# Altium schematic symbol library fgr.SchLib: 756 symbols (part 1 of 4)
Pins are listed as number, name and electrical type; pins without a type are passive.

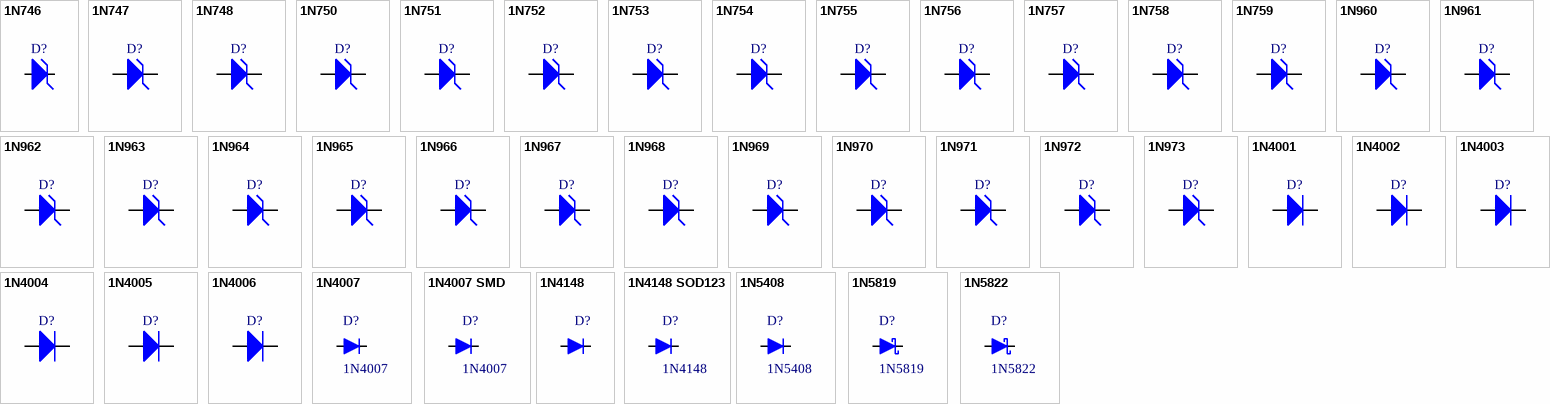
[diagram p0: symbols 1N746 to 1N5822]

## 1N746
designator D?
3.3V 500mW Zener Diode
simulation model 1N746 (MDL)
footprint DIODE200
simulation model 1N746V2 (SUBCKT)
pins: 1 A, 2 K

## 1N747
designator D?
3.6V 500mW Zener Diode
simulation model 1N747 (MDL)
footprint DIODE200
simulation model 1N747V2 (SUBCKT)
pins: 1 A, 2 K

## 1N748
designator D?
3.9V 500mW Zener Diode
simulation model 1N748 (MDL)
footprint DIODE200
simulation model 1N748V2 (SUBCKT)
pins: 1 A, 2 K

## 1N750
designator D?
4.7V 500mW Zener Diode
simulation model 1N750 (MDL)
footprint DIODE200
simulation model 1N750V2 (SUBCKT)
pins: 1 A, 2 K

## 1N751
designator D?
5.1V 500mW Zener Diode
simulation model 1N751 (MDL)
footprint DIODE200
simulation model 1N751V2 (SUBCKT)
pins: 1 A, 2 K

## 1N752
designator D?
5.6V 500mW Zener Diode
simulation model 1N752 (MDL)
footprint DIODE200
simulation model 1N752V2 (SUBCKT)
pins: 1 A, 2 K

## 1N753
designator D?
6.2V 500mW Zener Diode
simulation model 1N753 (MDL)
footprint DIODE200
simulation model 1N753V2 (SUBCKT)
pins: 1 A, 2 K

## 1N754
designator D?
6.8V 500mW Zener Diode
simulation model 1N754 (MDL)
footprint DIODE200
simulation model 1N754V2 (SUBCKT)
pins: 1 A, 2 K

## 1N755
designator D?
7.5V 500mW Zener Diode
simulation model 1N755 (MDL)
footprint DIODE200
simulation model 1N755V2 (SUBCKT)
pins: 1 A, 2 K

## 1N756
designator D?
8.2V 500mW Zener Diode
simulation model 1N756 (MDL)
footprint DIODE200
simulation model 1N756V2 (SUBCKT)
pins: 1 A, 2 K

## 1N757
designator D?
9.1V 500mW Zener Diode
simulation model 1N757 (MDL)
footprint DIODE200
simulation model 1N757V2 (SUBCKT)
pins: 1 A, 2 K

## 1N758
designator D?
10V 500mW Zener Diode
simulation model 1N758 (MDL)
footprint DIODE200
simulation model 1N758V2 (SUBCKT)
pins: 1 A, 2 K

## 1N759
designator D?
12V 500mW Zener Diode; Power: 500mW; Voltage: 12V
simulation model 1N759 (MDL)
footprint DIODE200
simulation model 1N759V2 (SUBCKT)
pins: 1 A, 2 K

## 1N960
designator D?
9.1V 500mW Zener Diode
simulation model 1N960 (SUBCKT)
footprint diode200
pins: 1 A, 2 K

## 1N961
designator D?
10V 500mW Zener Diode
simulation model 1N961 (SUBCKT)
footprint diode200
pins: 1 A, 2 K

## 1N962
designator D?
11V 500mW Zener Diode
simulation model 1N962 (SUBCKT)
footprint diode200
pins: 1 A, 2 K

## 1N963
designator D?
12V 500mW Zener Diode
simulation model 1N963 (SUBCKT)
footprint diode200
pins: 1 A, 2 K

## 1N964
designator D?
13V 500mW Zener Diode
simulation model 1N964 (SUBCKT)
footprint diode200
pins: 1 A, 2 K

## 1N965
designator D?
15V 500mW Zener Diode
simulation model 1N965 (SUBCKT)
footprint diode200
pins: 1 A, 2 K

## 1N966
designator D?
16V 500mW Zener Diode
simulation model 1N966 (SUBCKT)
footprint diode200
pins: 1 A, 2 K

## 1N967
designator D?
18V 500mW Zener Diode
simulation model 1N967 (SUBCKT)
footprint diode200
pins: 1 A, 2 K

## 1N968
designator D?
20V 500mW Zener Diode
simulation model 1N968 (SUBCKT)
footprint diode200
pins: 1 A, 2 K

## 1N969
designator D?
22V 500mW Zener Diode
simulation model 1N969 (SUBCKT)
footprint diode200
pins: 1 A, 2 K

## 1N970
designator D?
24V 500mW Zener Diode
simulation model 1N970 (SUBCKT)
footprint diode200
pins: 1 A, 2 K

## 1N971
designator D?
27V 500mW Zener Diode
simulation model 1N971 (SUBCKT)
footprint diode200
pins: 1 A, 2 K

## 1N972
designator D?
30V 500mW Zener Diode
simulation model 1N972 (SUBCKT)
footprint diode200
pins: 1 A, 2 K

## 1N973
designator D?
33V 500mW Zener Diode
simulation model 1N973 (SUBCKT)
footprint diode200
pins: 1 A, 2 K

## 1N4001
designator D?
1A 50V General Purpose Rectifier; Price: ?
footprint DIODE300 (DIODO THROUGH-HOLE)
footprint dsmd2mm (DIODO SMD)
footprint diode300 (DIODO THROUGH-HOLE)
footprint diode300_90
footprint DIODE600
simulation model 1N4001 (MDL)
footprint diode400
simulation model DIODE (SUBCKT)
footprint D64
pins: 1, 2

## 1N4002
designator D?
1A 100V General Purpose Rectifier; Price: ?
footprint DIODE300 (DIODO THROUGH-HOLE)
footprint dsmd2mm (DIODO SMD)
footprint diode300 (DIODO THROUGH-HOLE)
footprint diode300_90
footprint DIODE600
simulation model 1N4002 (MDL)
footprint diode400
simulation model DIODE (SUBCKT)
footprint D64
pins: 1, 2

## 1N4003
designator D?
1A 200V General Purpose Rectifier; Price: ?
footprint DIODE300 (DIODO THROUGH-HOLE)
footprint dsmd2mm (DIODO SMD)
footprint diode300 (DIODO THROUGH-HOLE)
footprint diode300_90
footprint DIODE600
simulation model 1N4003 (MDL)
footprint diode400
simulation model DIODE (SUBCKT)
footprint D64
pins: 1, 2

## 1N4004
designator D?
1A 400V General Purpose Rectifier; Price: ?
footprint DIODE300 (DIODO THROUGH-HOLE)
footprint dsmd2mm (DIODO SMD)
footprint diode300 (DIODO THROUGH-HOLE)
footprint diode300_90
footprint DIODE600
simulation model 1N4004 (MDL)
footprint diode400
simulation model DIODE (SUBCKT)
footprint D64
pins: 1, 2

## 1N4005
designator D?
1A 600V General Purpose Rectifier; Price: ?
footprint DIODE300 (DIODO THROUGH-HOLE)
footprint dsmd2mm (DIODO SMD)
footprint diode300 (DIODO THROUGH-HOLE)
footprint diode300_90
footprint DIODE600
simulation model 1N4005 (MDL)
footprint diode400
simulation model DIODE (SUBCKT)
footprint D64
pins: 1, 2

## 1N4006
designator D?
1A 800V General Purpose Rectifier; Price: ?
footprint DIODE300 (DIODO THROUGH-HOLE)
footprint dsmd2mm (DIODO SMD)
footprint diode300 (DIODO THROUGH-HOLE)
footprint diode300_90
footprint DIODE600
simulation model 1N4006 (MDL)
footprint diode400
simulation model DIODE (SUBCKT)
footprint D64
pins: 1, 2

## 1N4007
designator D?
Codigo Elemon: DI1152060; Dolares Elemon: 0.01989
footprint D_DO41
simulation model 1N4007 (MDL)
footprint diode400
simulation model DIODE (SUBCKT)
pins: 1, 2

## 1N4007 SMD
designator D?, comment 1N4007
1N4007 SMD; Dolares Elemon: 0.03482; Codigo Elemon: DI1202222
simulation model 1N4007 (MDL)
simulation model DIODE (SUBCKT)
footprint D_DO214
pins: 1, 2

## 1N4148
designator D?
High Conductance Fast Diode; Price: ?
footprint DIODE300 (DIODO THROUGH-HOLE)
footprint DSMD1MM (DIODO SMD)
simulation model 1N4148 (DIODE)
pins: 1, 2

## 1N4148 SOD123
designator D?, comment 1N4148
1N4148 SOD123; Dolares Elemon: 0.05230; Codigo Elemon: DI1202050
footprint DIODE300 (DIODO THROUGH-HOLE)
footprint SOD123 (DIODO SMD)
simulation model 1N4148 (DIODE)
pins: 1, 2

## 1N5408
designator D?
footprint D_DO27
simulation model 1N4007 (MDL)
footprint diode400
simulation model DIODE (SUBCKT)
pins: 1, 2

## 1N5819
designator D?
Schottky Diode 1A 40V; Revision: July-2002: Re-released for DXP Platform.
footprint d_do41
simulation model 1N5819 (MDL)
pins: 1 A, 2 K

## 1N5822
designator D?
Schottky Diode 3A 40V; Revision: July-2002: Re-released for DXP Platform.
footprint DIODE300 (DIODO THROUGH-HOLE)
footprint D_DO27
simulation model 1N5822 (MDL)
pins: 1 A, 2 K

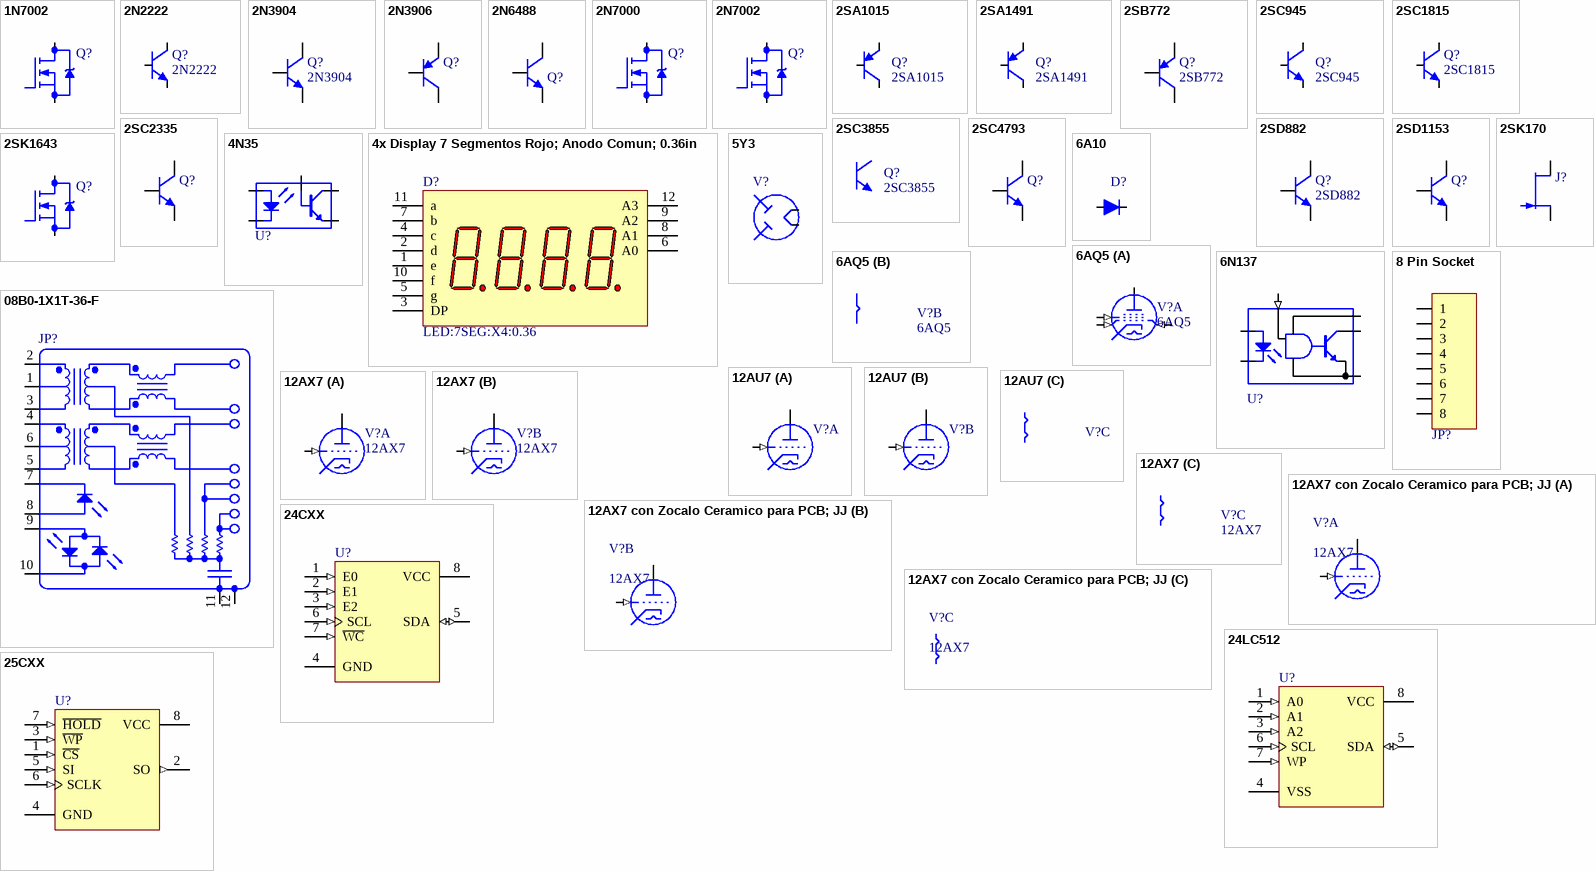
[diagram p1: symbols 1N7002 to 25CXX]

## 1N7002
designator Q?
N-channel enhacement mode MOSFET; Price: ?
footprint SOT23; pin to pad 2>3 3>2
pins: 1 G, 2 D, 3 S

## 2N2222
designator Q?
footprint to18
pins: 1 B, 2 C, 3 E

## 2N3904
designator Q?
NPN Bipolar Transistor; Price: 0.38
footprint TO92 (DISPOSITIVO DE ENCAPSULADO TO-92); pin to pad 1>3 3>1
pins: 1 C, 2 B, 3 E

## 2N3906
designator Q?
200mA 40V PNP Bipolar Transistor; Price: 0.3267
footprint TO92B; pin to pad 1>2 2>1
pins: 1 B, 2 E, 3 C

## 2N6488
designator Q?
NPN Bipolar Transistor 15A 80V
footprint to220 (DISPOSITIVO DE ENCAPSULADO TO-220); pin to pad 1>2 2>3 3>1
footprint TO220_3; pin to pad 1>2 2>3 3>1
pins: 1 C, 2 B, 3 E

## 2N7000
designator Q?
N-Channel MOSFET 60V  0.28A 5 ohm; Price: ?
footprint TO92B; pin to pad 1>2 2>3 3>1
pins: 1 G, 2 D, 3 S

## 2N7002
designator Q?
N-Channel MOSFET 60V  0.1A 7.5 ohm; Price: ?
footprint SOT23; pin to pad 2>3 3>2
pins: 1 G, 2 D, 3 S

## 2SA1015
designator Q?
Price: 0.3267
footprint to92 (DISPOSITIVO DE ENCAPSULADO TO-92); pin to pad 1>2 2>3 3>1
pins: 1 C, 2 B, 3 E

## 2SA1491
designator Q?
Price: 0.3267
footprint TO247; pin to pad 1>2 2>1
pins: 1 C, 2 B, 3 E

## 2SB772
designator Q?
PNP Bipolar Transistor; Price: 0.3267
footprint to126; pin to pad 2>3 3>2
pins: 1 B, 2 E, 3 C

## 2SC945
designator Q?
Price: ?
footprint to92 (DISPOSITIVO DE ENCAPSULADO TO-92); pin to pad 1>2 2>3 3>1
pins: 1 C, 2 B, 3 E

## 2SC1815
designator Q?
NPN Bipolar Transistor; Price: ?
footprint to92 (DISPOSITIVO DE ENCAPSULADO TO-92)
footprint to92b
pins: 1 E, 2 C, 3 B

## 2SC2335
designator Q?
7A 400V NPN Bipolar Transistor; Price: 0.38
footprint TO220 (DISPOSITIVO DE ENCAPSULADO TO-220); pin to pad 1>2 2>1
simulation model 2sc2335 (MDL)
pins: 1 C, 2 B, 3 E

## 2SC3855
designator Q?
footprint TO247; pin to pad 1>2 2>1
pins: 1 C, 2 B, 3 E

## 2SC4793
designator Q?
1A 230V NPN Bipolar Transistor; Price: 0.38
footprint TO220 (DISPOSITIVO DE ENCAPSULADO TO-220); pin to pad 1>2 2>1
simulation model 2SC4793 (MDL)
pins: 1 C, 2 B, 3 E

## 2SD882
designator Q?
NPN Bipolar Transistor; Price: ?
footprint TO126; pin to pad 1>3 3>1
footprint to92b
pins: 1 E, 2 C, 3 B

## 2SD1153
designator Q?
1.5A 50V NPN Bipolar Transistor; Price: 0.38
footprint to92 (DISPOSITIVO DE ENCAPSULADO TO-92); pin to pad 1>3 2>1 3>2
footprint to92c; pin to pad 1>3 2>1 3>2
pins: 1 B, 2 E, 3 C

## 2SK170
designator J?
N-Channel JFET; Revision: July-2002: Re-released for DXP Platform.
footprint TO92 (DISPOSITIVO DE ENCAPSULADO TO-92)
pins: 1 D, 2 G, 3 S

## 2SK1643
designator Q?
Power Field Effect Transistor; Revision: 17-Jul-2002: Re-released for DXP Platform.
footprint TO220 (DISPOSITIVO DE ENCAPSULADO TO-220)
footprint To220_2
pins: 1 G, 2 D, 3 S

## 4N35
designator U?
Optoaislador; Price: ?
footprint DIP6Z (ZOCALO DIP 6)
simulation model OPTOCOUPLER (SUBCKT)
pins: 1 A, 2 K, 4 E, 5 C, 6 B

## 4x Display 7 Segmentos Rojo; Anodo Comun; 0.36in
designator D?, comment LED:7SEG:X4:0.36
footprint LED:7SEG:X4:0.36
pins: 1 e "Cathode", 2 d "Cathode", 3 DP "Cathode", 4 c "Cathode", 5 g "Cathode", 6 A0 "Anode", 7 b "Cathode", 8 A1 "Anode", 9 A2 "Anode", 10 f "Cathode", 11 a "Cathode", 12 A3 "Anode"

## 5Y3
designator V?
5Y3 Tube; Revision: July-2002: Re-released for DXP Platform.
footprint tube_socket_1
pins: 2, 4, 6, 8

## 6A10
designator D?  (value not drawn)
Price: ?
footprint D_R6
simulation model DIODO (MDL)
simulation model DIODE (SUBCKT)
pins: 1, 2

## 6AQ5
designator V?
Revision: July-2002: Re-released for DXP Platform.
footprint TUBE_SOCKET_2
simulation model V12AX7 (subckt)
part A pins: 1 GRID2A (in), 2 CATHODE, 5 PLATE, 6 GRID (in), 7 GRID2B (in)
part B pins: 3 HEATER, 4 HEATER

## 6N137
designator U?
Optoaislador; Price: ?
footprint DIP8Z (ZOCALO DIP 8)
pins: 2 A, 3 K, 5 GND (power), 6 VO (oc), 7 VE (in), 8 VCC (power)

## 8 Pin Socket
designator JP?  (value not drawn)
Price: ?
pins: 1, 2, 3, 4, 5, 6, 7, 8

## 08B0-1X1T-36-F
designator JP?
RJ45; Price: ?
footprint rj45 (08B0-1X1T-36-F)
pins: 1 TX+, 2 TX-, 3 RX+, 4, 5, 6 RX-, 7, 8, 9, 10, 11, 12

## 12AU7
designator V?
12AU7 Tube; Revision: July-2002: Re-released for DXP Platform.
footprint tube_socket_2
simulation model V12AU7 (subckt)
part A pins: 1 PLATE, 2 GRID (in), 3 CATHODE
part B pins: 6 PLATE, 7 GRID (in), 8 CATHODE
part C pins: 4 HEATER, 5 HEATER, 9 HEATER

## 12AX7
designator V?
12AX7 Tube; Revision: July-2002: Re-released for DXP Platform.
footprint TUBE_SOCKET_2
simulation model V12AX7 (subckt)
part A pins: 1 PLATE, 2 GRID (in), 3 CATHODE
part B pins: 6 PLATE, 7 GRID (in), 8 CATHODE
part C pins: 4 HEATER, 5 HEATER, 9 HEATER

## 12AX7 con Zocalo Ceramico para PCB; JJ
designator V?, comment 12AX7
12AX7 con Zocalo Ceramico para PCB; JJ; Dolares TubeDepot: 0.95
footprint TUBE_SOCKET_3
part A pins: 1 PLATE, 2 GRID (in), 3 CATHODE
part B pins: 6 PLATE, 7 GRID (in), 8 CATHODE
part C pins: 4 HEATER, 5 HEATER, 9 HEATER

## 24CXX
designator U?
Serial EEPROM; Price: ?
footprint DIP8Z (ZOCALO DIP 8)
pins: 1 E0 (in), 2 E1 (in), 3 E2 (in), 4 GND (power), 5 SDA (io), 6 SCL (in), 7 ~{WC} (in), 8 VCC (power)

## 24LC512
designator U?
512K I2C CMOS Serial EEPROM; Revision: 17-Jul-2002: Re-released for DXP Platform.
footprint SO8 (SO8 IC)
footprint dip8Z (ZOCALO DIP 8)
pins: 1 A0 (in), 2 A1 (in), 3 A2 (in), 4 VSS (power), 5 SDA (io), 6 SCL (in), 7 WP (in), 8 VCC (power)

## 25CXX
designator U?
Serial EEPROM; Price: ?
footprint DIP8Z (ZOCALO DIP 8)
pins: 1 ~{CS} (in), 2 SO (out), 3 ~{WP} (in), 4 GND (power), 5 SI (in), 6 SCLK (in), 7 ~{HOLD} (in), 8 VCC (power)

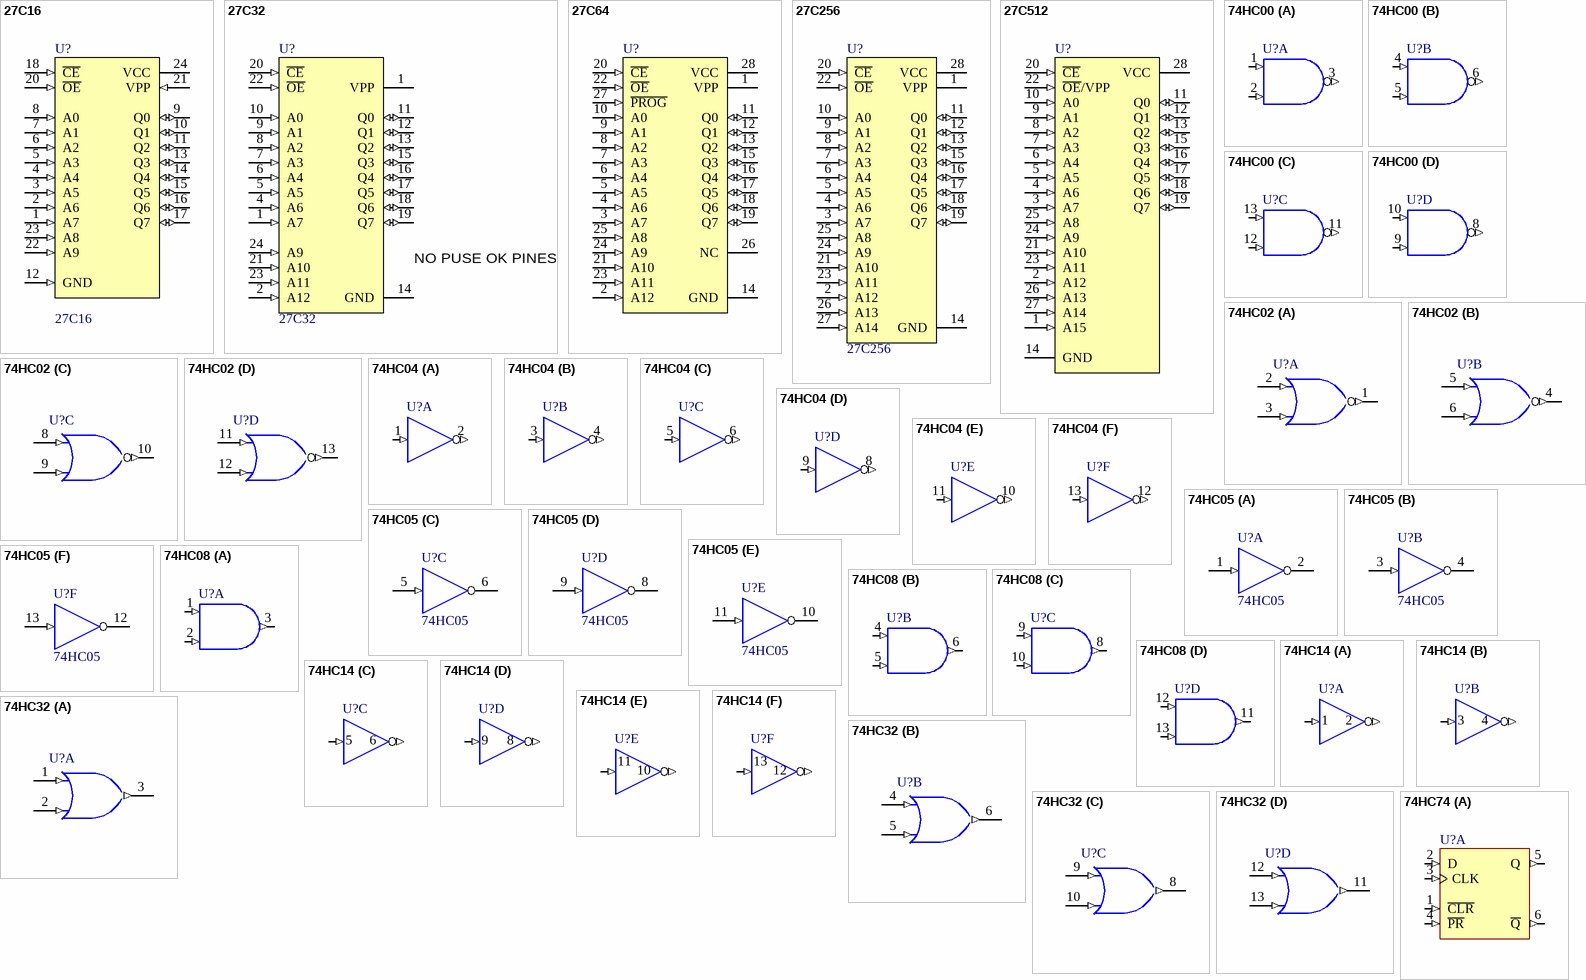
[diagram p2: symbols 27C16 to 74HC74]

## 27C16
designator U?
32 Kbit (2Kb X 8) UV EPROM; Revision: 17-Jul-2002: Re-released for DXP Platform.
footprint DIP28 (DIP28 IC)
pins: 1 A7 (in), 2 A6 (in), 3 A5 (in), 4 A4 (in), 5 A3 (in), 6 A2 (in), 7 A1 (in), 8 A0 (in), 9 Q0 (io), 10 Q1 (io), 11 Q2 (io), 12 GND (in), 13 Q3 (io), 14 Q4 (io), 15 Q5 (io), 16 Q6 (io), 17 Q7 (io), 18 ~{CE} (in), 20 ~{OE} (in), 21 VPP (in), 22 A9 (in), 23 A8 (in), 24 VCC (power)

## 27C32
designator U?
32 Kbit (4Kb X 8) UV EPROM; Revision: 17-Jul-2002: Re-released for DXP Platform.
footprint DIP28 (DIP28 IC)
pins: 1 VPP (power), 1 A7 (in), 2 A12 (in), 4 A6 (in), 5 A5 (in), 6 A4 (in), 7 A3 (in), 8 A2 (in), 9 A1 (in), 10 A0 (in), 11 Q0 (io), 12 Q1 (io), 13 Q2 (io), 14 GND (power), 15 Q3 (io), 16 Q4 (io), 17 Q5 (io), 18 Q6 (io), 19 Q7 (io), 20 ~{CE} (in), 21 A10 (in), 22 ~{OE} (in), 23 A11 (in), 24 A9 (in)
text: NO PUSE OK PINES

## 27C64
designator U?
64 Kbit (8Kb X 8) UV EPROM; Revision: 17-Jul-2002: Re-released for DXP Platform.
footprint DIP28 (DIP28 IC)
pins: 1 VPP (power), 2 A12 (in), 3 A7 (in), 4 A6 (in), 5 A5 (in), 6 A4 (in), 7 A3 (in), 8 A2 (in), 9 A1 (in), 10 A0 (in), 11 Q0 (io), 12 Q1 (io), 13 Q2 (io), 14 GND (power), 15 Q3 (io), 16 Q4 (io), 17 Q5 (io), 18 Q6 (io), 19 Q7 (io), 20 ~{CE} (in), 21 A10 (in), 22 ~{OE} (in), 23 A11 (in), 24 A9 (in), 25 A8 (in), 26 NC, 27 ~{PROG} (in), 28 VCC (power)

## 27C256
designator U?
256 Kbit (32Kb X 8) UV EPROM
footprint DIP28z (ZOCALO DIP28)
pins: 1 VPP (power), 2 A12 (in), 3 A7 (in), 4 A6 (in), 5 A5 (in), 6 A4 (in), 7 A3 (in), 8 A2 (in), 9 A1 (in), 10 A0 (in), 11 Q0 (io), 12 Q1 (io), 13 Q2 (io), 14 GND (power), 15 Q3 (io), 16 Q4 (io), 17 Q5 (io), 18 Q6 (io), 19 Q7 (io), 20 ~{CE} (in), 21 A10 (in), 22 ~{OE} (in), 23 A11 (in), 24 A9 (in), 25 A8 (in), 26 A13 (in), 27 A14 (in), 28 VCC (power)

## 27C512
designator U?
512 Kbit (64Kb x 8) UV EPROM and OTP EPROM; Revision: 17-Jul-2002: Re-released for DXP Platform.
footprint DIP28 (DIP28 IC)
pins: 1 A15 (in), 2 A12 (in), 3 A7 (in), 4 A6 (in), 5 A5 (in), 6 A4 (in), 7 A3 (in), 8 A2 (in), 9 A1 (in), 10 A0 (in), 11 Q0 (io), 12 Q1 (io), 13 Q2 (io), 14 GND (power), 15 Q3 (io), 16 Q4 (io), 17 Q5 (io), 18 Q6 (io), 19 Q7 (io), 20 ~{CE} (in), 21 A10 (in), 22 ~{OE}/VPP (in), 23 A11 (in), 24 A9 (in), 25 A8 (in), 26 A13 (in), 27 A14 (in), 28 VCC (power)

## 74HC00
designator U?
Quad 2-Input NAND Gate; Price: ?
footprint SO14 (SO14 IC)
pins on every part: 7 GND (power) hidden to GND, 14 VCC (power) hidden to VCC
part A pins: 1 A (in), 2 B (in), 3 ~{O} (out)
part B pins: 4 A (in), 5 B (in), 6 ~{O} (out)
part C pins: 11 ~{O} (out), 12 B (in), 13 A (in)
part D pins: 8 ~{O} (out), 9 B (in), 10 A (in)

## 74HC02
designator U?
Quadruple 2-Input Positive-NOR Gate; Revision: 17-Jul-2002: Re-released for DXP Platform.
footprint SO14 (SO14 IC)
pins on every part: 7 GND (power) hidden to GND, 14 VCC (power) hidden to VCC
part A pins: 1 Y (out), 2 A (in), 3 B (in)
part B pins: 4 Y (out), 5 A (in), 6 B (in)
part C pins: 8 A (in), 9 B (in), 10 Y (out)
part D pins: 11 A (in), 12 B (in), 13 Y (out)

## 74HC04
designator U?
Hex Inverter; Price: ?
footprint DIP14 (DIP14 IC)
footprint DIP14Z (ZOCALO DIP14)
footprint SO14 (SO14 IC)
pins on every part: 7 GND (power) hidden to GND, 14 VCC (power) hidden to VCC
part A pins: 1 A (in), 2 Y (out)
part B pins: 3 A (in), 4 Y (out)
part C pins: 5 A (in), 6 Y (out)
part D pins: 8 Y (out), 9 A (in)
part E pins: 10 Y (out), 11 A (in)
part F pins: 12 Y (out), 13 A (in)

## 74HC05
designator U?
Hex Inverter (Open Drain)
footprint dip14z (ZOCALO DIP14)
pins on every part: 7 GND (power) hidden to GND, 14 VCC (power) hidden to VCC
part A pins: 1 A (in), 2 Y (oc)
part B pins: 3 A (in), 4 Y (oc)
part C pins: 5 A (in), 6 Y (oc)
part D pins: 8 Y (oc), 9 A (in)
part E pins: 10 Y (oc), 11 A (in)
part F pins: 12 Y (oc), 13 A (in)

## 74HC08
designator U?
Quad 2-Input AND Gate
footprint SO14 (SO14 IC)
pins on every part: 7 GND (power) hidden to GND, 14 VCC (power) hidden to VCC
part A pins: 1 A (in), 2 B (in), 3 Y (out)
part B pins: 4 A (in), 5 B (in), 6 Y (out)
part C pins: 8 Y (out), 9 A (in), 10 B (in)
part D pins: 11 Y (out), 12 A (in), 13 B (in)

## 74HC14
designator U?
Hex Schmitt-Trigger Inverter; Price: ?
footprint DIP14 (DIP14 IC)
footprint DIP14Z (ZOCALO DIP14)
footprint so14 (SO14 IC)
pins on every part: 7 GND (power) hidden to GND, 14 VCC (power) hidden to VCC
part A pins: 1 A (in), 2 Y (out)
part B pins: 3 A (in), 4 Y (out)
part C pins: 5 A (in), 6 Y (out)
part D pins: 8 Y (out), 9 A (in)
part E pins: 10 Y (out), 11 A (in)
part F pins: 12 Y (out), 13 A (in)

## 74HC32
designator U?
Quadruple 2-Input Positive-OR Gate; Revision: 17-Jul-2002: Re-released for DXP Platform.
footprint so14 (SO14 IC)
pins on every part: 7 GND (power) hidden to GND, 14 VCC (power) hidden to VCC
part A pins: 1 A (in), 2 B (in), 3 Y (out)
part B pins: 4 A (in), 5 B (in), 6 Y (out)
part C pins: 8 Y (out), 9 A (in), 10 B (in)
part D pins: 11 Y (out), 12 A (in), 13 B (in)

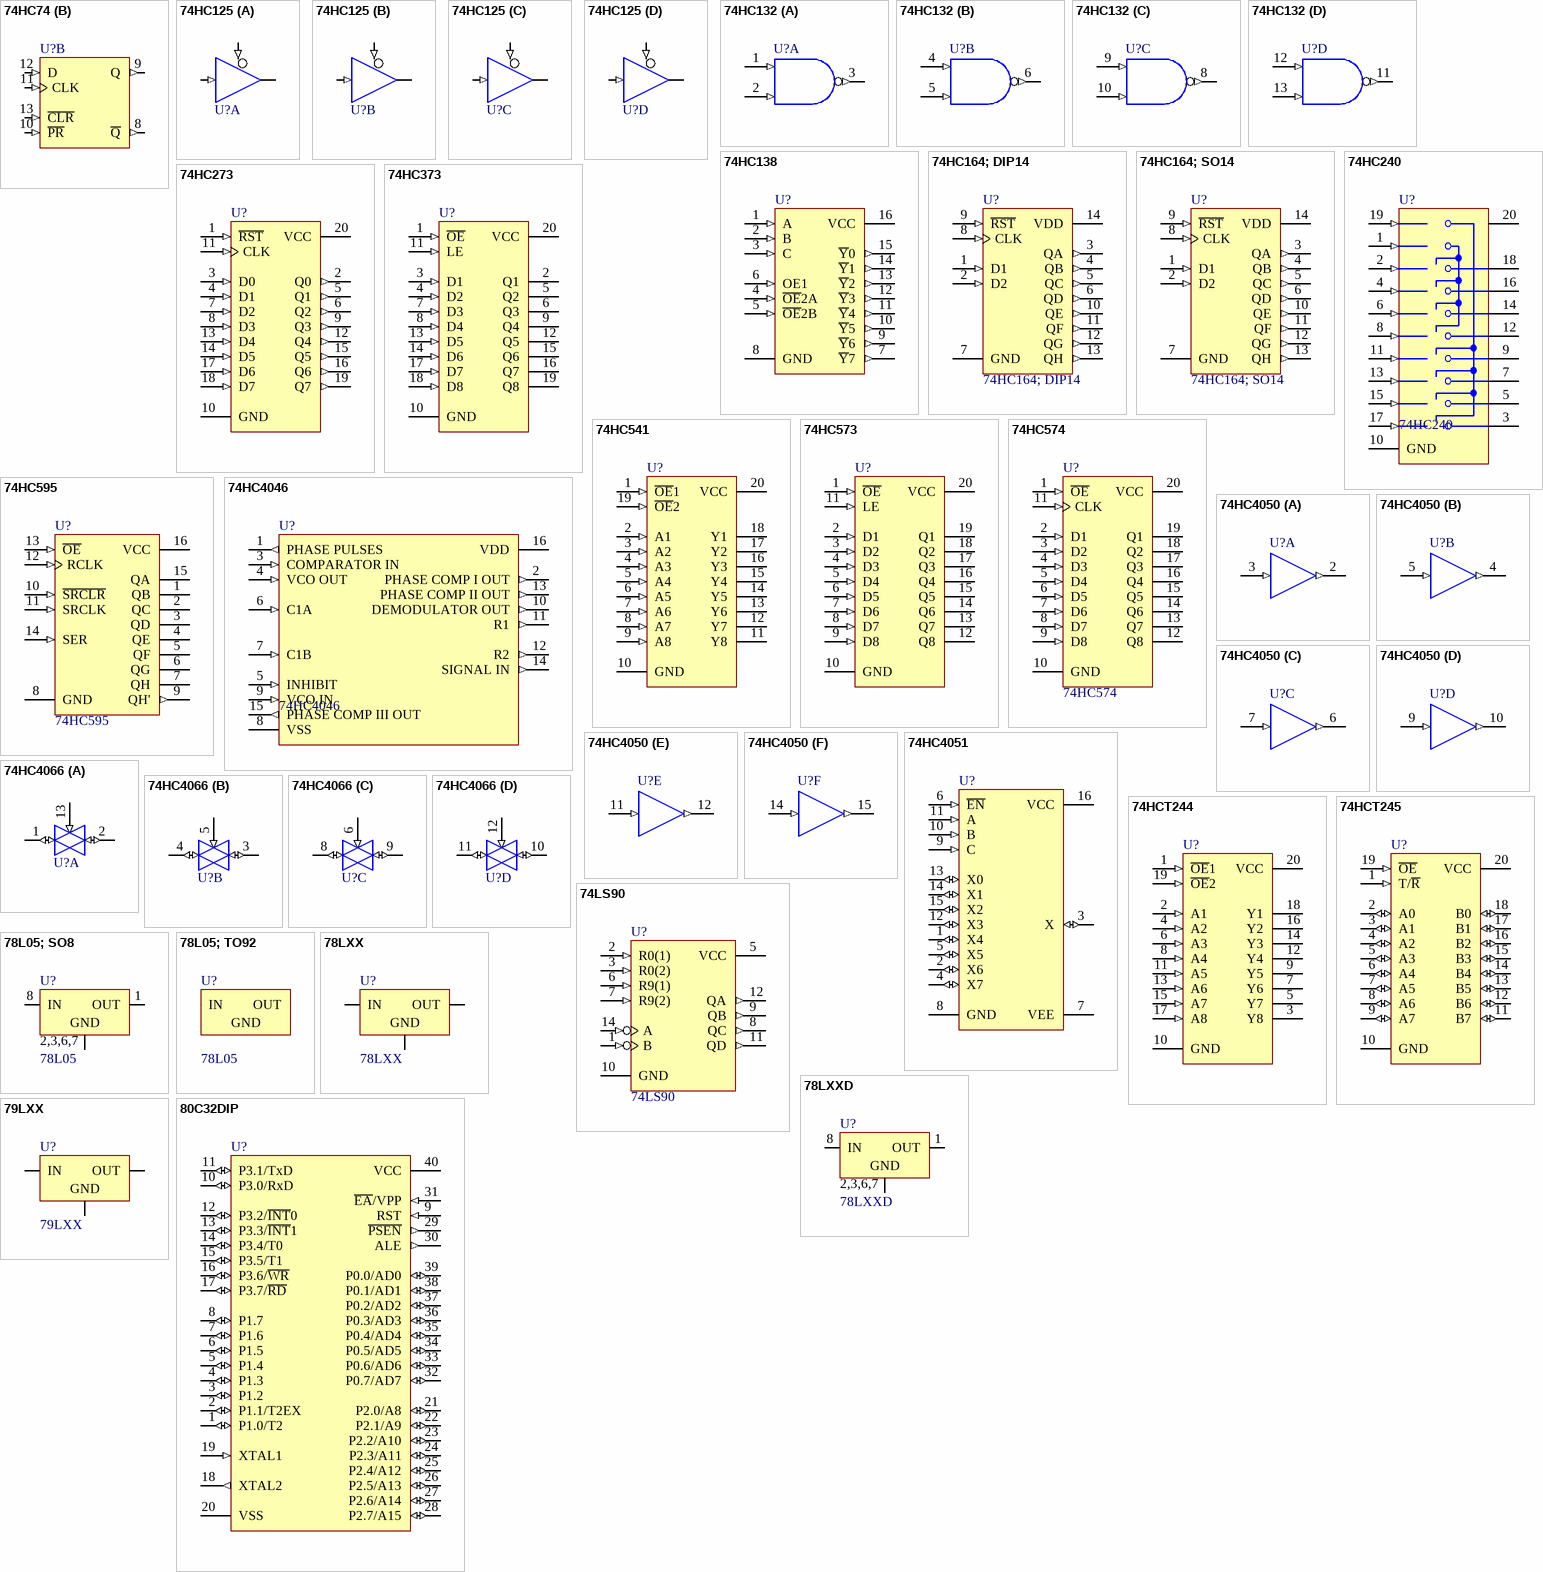
[diagram p3: symbols 74HC74 to 80C32DIP]

## 74HC74
designator U?
Dual D-Type Positive-Edge-Triggered Flip-Flop with Clear and Preset; Revision: 17-Jul-2002: Re-released for DXP Platform.
footprint SO14 (SO14 IC)
footprint dip14Z (ZOCALO DIP14)
pins on every part: 7 GND (power) hidden to GND, 14 VCC (power) hidden to VCC
part A pins: 1 ~{CLR} (in), 2 D (in), 3 CLK (in), 4 ~{PR} (in), 5 Q (out), 6 ~{Q} (out)
part B pins: 8 ~{Q} (out), 9 Q (out), 10 ~{PR} (in), 11 CLK (in), 12 D (in), 13 ~{CLR} (in)

## 74HC125
designator U?
Quad 3-State Non-Inverting Buffer; Price: ?
footprint DIP14 (DIP14 IC)
footprint DIP14Z (ZOCALO DIP14)
pins on every part: 7 GND (power) hidden to GND, 14 VCC (power) hidden to VCC
part A pins: 1 ~{A} (in), 2 B (in), 3 Y (hiz)
part B pins: 4 ~{A} (in), 5 B (in), 6 Y (hiz)
part C pins: 8 Y (hiz), 9 B (in), 10 ~{A} (in)
part D pins: 11 Y (hiz), 12 B (in), 13 ~{A} (in)

## 74HC132
designator U?
Quadruple Positive-NAND Gate with Schmitt-Trigger Inputs; Revision: 17-Jul-2002: Re-released for DXP Platform.
footprint so14 (SO14 IC)
pins on every part: 7 GND (power) hidden to GND, 14 VCC (power) hidden to VCC
part A pins: 1 A (in), 2 B (in), 3 Y (out)
part B pins: 4 A (in), 5 B (in), 6 Y (out)
part C pins: 8 Y (out), 9 A (in), 10 B (in)
part D pins: 11 Y (out), 12 A (in), 13 B (in)

## 74HC138
designator U?
3-Line to 8-Line Decoder / Demultiplexer; Price: ?
footprint SO16 (SO16 IC)
pins: 1 A (in), 2 B (in), 3 C (in), 4 ~{OE}2A (in), 5 ~{OE}2B (in), 6 OE1 (in), 7 ~{Y}7 (out), 8 GND (power), 9 ~{Y}6 (out), 10 ~{Y}5 (out), 11 ~{Y}4 (out), 12 ~{Y}3 (out), 13 ~{Y}2 (out), 14 ~{Y}1 (out), 15 ~{Y}0 (out), 16 VCC (power)

## 74HC164; DIP14
designator U?
Published: 17-Jul-2002; Datasheet: High-Speed CMOS Logic Data, DL129 Rev4 (1989); Package Reference: 632-08; Publisher: Altium Limited
footprint dip14 (DIP14 IC)
pins: 1 D1 (in), 2 D2 (in), 3 QA (out), 4 QB (out), 5 QC (out), 6 QD (out), 7 GND (power), 8 CLK (in), 9 ~{RST} (in), 10 QE (out), 11 QF (out), 12 QG (out), 13 QH (out), 14 VDD (power)

## 74HC164; SO14
designator U?
Published: 17-Jul-2002; Datasheet: High-Speed CMOS Logic Data, DL129 Rev4 (1989); Package Reference: 632-08; Publisher: Altium Limited
footprint so14 (SO14 IC)
pins: 1 D1 (in), 2 D2 (in), 3 QA (out), 4 QB (out), 5 QC (out), 6 QD (out), 7 GND (power), 8 CLK (in), 9 ~{RST} (in), 10 QE (out), 11 QF (out), 12 QG (out), 13 QH (out), 14 VDD (power)

## 74HC240
designator U?
Octal Buffer/Driver with 3-State Outputs
footprint DIP20Z
footprint DW020_L (SOIC, 20-Leads, Body 12.8x7.5mm, Pitch 1.27mm, IPC High Density)
footprint DW020_M (SOIC, 20-Leads, Body 12.8x7.5mm, Pitch 1.27mm, IPC Low Density)
pins: 1 ~{OE}1 (in), 2 A1 (in), 3 ~{Y}8 (hiz), 4 A2 (in), 5 ~{Y}7 (hiz), 6 A3 (in), 7 ~{Y}6 (hiz), 8 A4 (in), 9 ~{Y}5 (hiz), 10 GND (power), 11 A5 (in), 12 ~{Y}4 (hiz), 13 A6 (in), 14 ~{Y}3 (hiz), 15 A7 (in), 16 ~{Y}2 (hiz), 17 A8 (in), 18 ~{Y}1 (hiz), 19 ~{OE}2 (in), 20 VCC (power)

## 74HC273
designator U?
Octal D-Type Flip-Flop with Clear; Price: 1.35
footprint SOIC20 (ENCAPSULADO SOIC20)
pins: 1 ~{RST} (in), 2 Q0 (out), 3 D0 (in), 4 D1 (in), 5 Q1 (out), 6 Q2 (out), 7 D2 (in), 8 D3 (in), 9 Q3 (out), 10 GND (power), 11 CLK (in), 12 Q4 (out), 13 D4 (in), 14 D5 (in), 15 Q5 (out), 16 Q6 (out), 17 D6 (in), 18 D7 (in), 19 Q7 (out), 20 VCC (power)

## 74HC373
designator U?
Octal Transparent D-Type Latches with 3-State Outputs; Revision: 17-Jul-2002: Re-released for DXP Platform.
footprint DIP20Z
footprint soic20 (ENCAPSULADO SOIC20)
pins: 1 ~{OE} (in), 2 Q1 (hiz), 3 D1 (in), 4 D2 (in), 5 Q2 (hiz), 6 Q3 (hiz), 7 D3 (in), 8 D4 (in), 9 Q4 (hiz), 10 GND (power), 11 LE (in), 12 Q5 (hiz), 13 D5 (in), 14 D6 (in), 15 Q6 (hiz), 16 Q7 (hiz), 17 D7 (in), 18 D8 (in), 19 Q8 (hiz), 20 VCC (power)

## 74HC541
designator U?
Octal Buffer and Line Driver with 3-State Outputs; Revision: 17-Jul-2002: Re-released for DXP Platform.
footprint dip20z
pins: 1 ~{OE}1 (in), 2 A1 (in), 3 A2 (in), 4 A3 (in), 5 A4 (in), 6 A5 (in), 7 A6 (in), 8 A7 (in), 9 A8 (in), 10 GND (power), 11 Y8 (hiz), 12 Y7 (hiz), 13 Y6 (hiz), 14 Y5 (hiz), 15 Y4 (hiz), 16 Y3 (hiz), 17 Y2 (hiz), 18 Y1 (hiz), 19 ~{OE}2 (in), 20 VCC (power)

## 74HC573
designator U?
Octal Transparent D-Type Latches with 3-State Outputs; Revision: 17-Jul-2002: Re-released for DXP Platform.
footprint SOIC20 (ENCAPSULADO SOIC20)
footprint DIP20Z
pins: 1 ~{OE} (in), 2 D1 (in), 3 D2 (in), 4 D3 (in), 5 D4 (in), 6 D5 (in), 7 D6 (in), 8 D7 (in), 9 D8 (in), 10 GND (power), 11 LE (in), 12 Q8 (hiz), 13 Q7 (hiz), 14 Q6 (hiz), 15 Q5 (hiz), 16 Q4 (hiz), 17 Q3 (hiz), 18 Q2 (hiz), 19 Q1 (hiz), 20 VCC (power)

## 74HC574
designator U?
Octal D-Type Edge-Triggered Flip-Flop with 3-State Outputs; Package Information: Latest Revision: Oct-1995; Published: 8-Jun-2000; Revision: 17-Jul-2002: Re-released for DXP Platform.; Datasheet: Latest Revision: Jul-1995; Package Reference: N020; Publisher: Altium Limited
footprint IC_SOIC20 (ENCAPSULADO SOIC20)
footprint DIP20z
pins: 1 ~{OE} (in), 2 D1 (in), 3 D2 (in), 4 D3 (in), 5 D4 (in), 6 D5 (in), 7 D6 (in), 8 D7 (in), 9 D8 (in), 10 GND (power), 11 CLK (in), 12 Q8 (hiz), 13 Q7 (hiz), 14 Q6 (hiz), 15 Q5 (hiz), 16 Q4 (hiz), 17 Q3 (hiz), 18 Q2 (hiz), 19 Q1 (hiz), 20 VCC (power)

## 74HC595
designator U?
8-Bit Shift Register with 3-State Output Registers
footprint DIP16 (DIP16 IC)
pins: 1 QB (hiz), 2 QC (hiz), 3 QD (hiz), 4 QE (hiz), 5 QF (hiz), 6 QG (hiz), 7 QH (hiz), 8 GND (power), 9 QH' (out), 10 ~{SRCLR} (in), 11 SRCLK (in), 12 RCLK (in), 13 ~{OE} (in), 14 SER (in), 15 QA (hiz), 16 VCC (power)

## 74HC4046
designator U?
Phase Lock Loop
footprint DIP16Z (ZOCALO DIP16)
pins: 1 PHASE PULSES (out), 2 PHASE COMP I OUT (out), 3 COMPARATOR IN (in), 4 VCO OUT (in), 5 INHIBIT (in), 6 C1A (in), 7 C1B (in), 8 VSS (power), 9 VCO IN (in), 10 DEMODULATOR OUT (out), 11 R1 (out), 12 R2 (out), 13 PHASE COMP II OUT (out), 14 SIGNAL IN (out), 15 PHASE COMP III OUT (out), 16 VDD (power)

## 74HC4050
designator U?
Hex Buffer/Converter Non-Inverting; Revision: 17-Jul-2002: Re-released for DXP Platform.
footprint dip16 (DIP16 IC)
pins on every part: 1 VCC (power) hidden to VCC, 8 GND (power) hidden to GND
part A pins: 2 Y (out), 3 A (in)
part B pins: 4 Y (out), 5 A (in)
part C pins: 6 Y (out), 7 A (in)
part D pins: 9 A (in), 10 Y (out)
part E pins: 11 A (in), 12 Y (out)
part F pins: 14 A (in), 15 Y (out)

## 74HC4051
designator U?
8-Channel Analog Multiplexer
footprint DIP16Z (ZOCALO DIP16)
pins: 1 X4 (io), 2 X6 (io), 3 X (io), 4 X7 (io), 5 X5 (io), 6 ~{EN} (in), 7 VEE (power), 8 GND (power), 9 C (in), 10 B (in), 11 A (in), 12 X3 (io), 13 X0 (io), 14 X1 (io), 15 X2 (io), 16 VCC (power)

## 74HC4066
designator U?
Quad Analog Switch
footprint dip14z (ZOCALO DIP14)
pins on every part: 7 VSS (power) hidden to GND, 14 VDD (power) hidden to VDD
part A pins: 1 IN/OUT (io), 2 OUT/IN (io), 13 CNTL (in)
part B pins: 3 OUT/IN (io), 4 IN/OUT (io), 5 CNTL (in)
part C pins: 6 CNTL (in), 8 IN/OUT (io), 9 OUT/IN (io)
part D pins: 10 OUT/IN (io), 11 IN/OUT (io), 12 CNTL (in)

## 74HCT244
designator U?
Octal Buffer and Line Driver with 3-State Outputs; Revision: 17-Jul-2002: Re-released for DXP Platform.
footprint SOIC20 (ENCAPSULADO SOIC20)
pins: 1 ~{OE}1 (in), 2 A1 (in), 3 Y8 (hiz), 4 A2 (in), 5 Y7 (hiz), 6 A3 (in), 7 Y6 (hiz), 8 A4 (in), 9 Y5 (hiz), 10 GND (power), 11 A5 (in), 12 Y4 (hiz), 13 A6 (in), 14 Y3 (hiz), 15 A7 (in), 16 Y2 (hiz), 17 A8 (in), 18 Y1 (hiz), 19 ~{OE}2 (in), 20 VCC (power)

## 74HCT245
designator U?
Octal Bus Transceiver with 3-State Outputs; Revision: 17-Jul-2002: Re-released for DXP Platform.
footprint SOIC20 (ENCAPSULADO SOIC20)
pins: 1 T/~{R} (in), 2 A0 (io), 3 A1 (io), 4 A2 (io), 5 A3 (io), 6 A4 (io), 7 A5 (io), 8 A6 (io), 9 A7 (io), 10 GND (power), 11 B7 (io), 12 B6 (io), 13 B5 (io), 14 B4 (io), 15 B3 (io), 16 B2 (io), 17 B1 (io), 18 B0 (io), 19 ~{OE} (in), 20 VCC (power)

## 74LS90
designator U?
Decade and Binary Counter
footprint Dip14z (ZOCALO DIP14)
pins: 1 B (in), 2 R0(1) (in), 3 R0(2) (in), 5 VCC (power), 6 R9(1) (in), 7 R9(2) (in), 8 QC (out), 9 QB (out), 10 GND (power), 11 QD (out), 12 QA (out), 14 A (in)

## 78L05; SO8
designator U?, comment 78L05
78L05; SO8; Codigo Elemon: CI2707533; Price: 0.32508
footprint so8 (SO8 IC)
pins: 1 OUT (power), 2 GND (power), 3 GND (power), 6 GND (power), 7 GND (power), 8 IN (power)
text: 2,3,6,7

## 78L05; TO92
designator U?, comment 78L05
78L05; TO92; Dolares Elemon: 0.18050; Codigo Elemon: CI2707530
footprint to92 (DISPOSITIVO DE ENCAPSULADO TO-92)
pins: 1 OUT (power), 2 GND (power), 3 IN (power)

## 78LXX
designator U?
3-Terminal Positive Regulator; Price: ?
footprint TO92 (DISPOSITIVO DE ENCAPSULADO TO-92)
footprint so8 (SO8 IC); pin to pad 3>8
pins: 1 OUT (power), 2 GND (power), 3 IN (power)

## 78LXXD
designator U?
3-Terminal Positive Regulator; Price: ?
footprint so8 (SO8 IC)
pins: 1 OUT (power), 2 GND (power), 3 GND (power), 6 GND (power), 7 GND (power), 8 IN (power)
text: 2,3,6,7

## 79LXX
designator U?
3-Terminal Negative Regulator; Price: ?
footprint TO92 (DISPOSITIVO DE ENCAPSULADO TO-92); pin to pad 1>2 2>1
pins: 1 IN (power), 2 GND (power), 3 OUT (power)

## 80C32DIP
designator U?
80C51 8-Bit Microcontroller Family: 256 B RAM, ROMless, 2.7 to 5.5 V, Low Power, High Speed
footprint DIP40 (DIP40 IC)
pins: 1 P1.0/T2 (io), 2 P1.1/T2EX (io), 3 P1.2 (io), 4 P1.3 (io), 5 P1.4 (io), 6 P1.5 (io), 7 P1.6 (io), 8 P1.7 (io), 9 RST (in), 10 P3.0/RxD (io), 11 P3.1/TxD (io), 12 P3.2/~{INT}0 (io), 13 P3.3/~{INT}1 (io), 14 P3.4/T0 (io), 15 P3.5/T1 (io), 16 P3.6/~{WR} (io), 17 P3.7/~{RD} (io), 18 XTAL2 (out), 19 XTAL1 (in), 20 VSS (power), 21 P2.0/A8 (io), 22 P2.1/A9 (io), 23 P2.2/A10 (io), 24 P2.3/A11 (io), 25 P2.4/A12 (io), 26 P2.5/A13 (io), 27 P2.6/A14 (io), 28 P2.7/A15 (io), 29 ~{PSEN} (out), 30 ALE (out), 31 ~{EA}/VPP (in), 32 P0.7/AD7 (io), 33 P0.6/AD6 (io), 34 P0.5/AD5 (io), 35 P0.4/AD4 (io), 36 P0.3/AD3 (io), 37 P0.2/AD2 (io), 38 P0.1/AD1 (io), 39 P0.0/AD0 (io), 40 VCC (power)

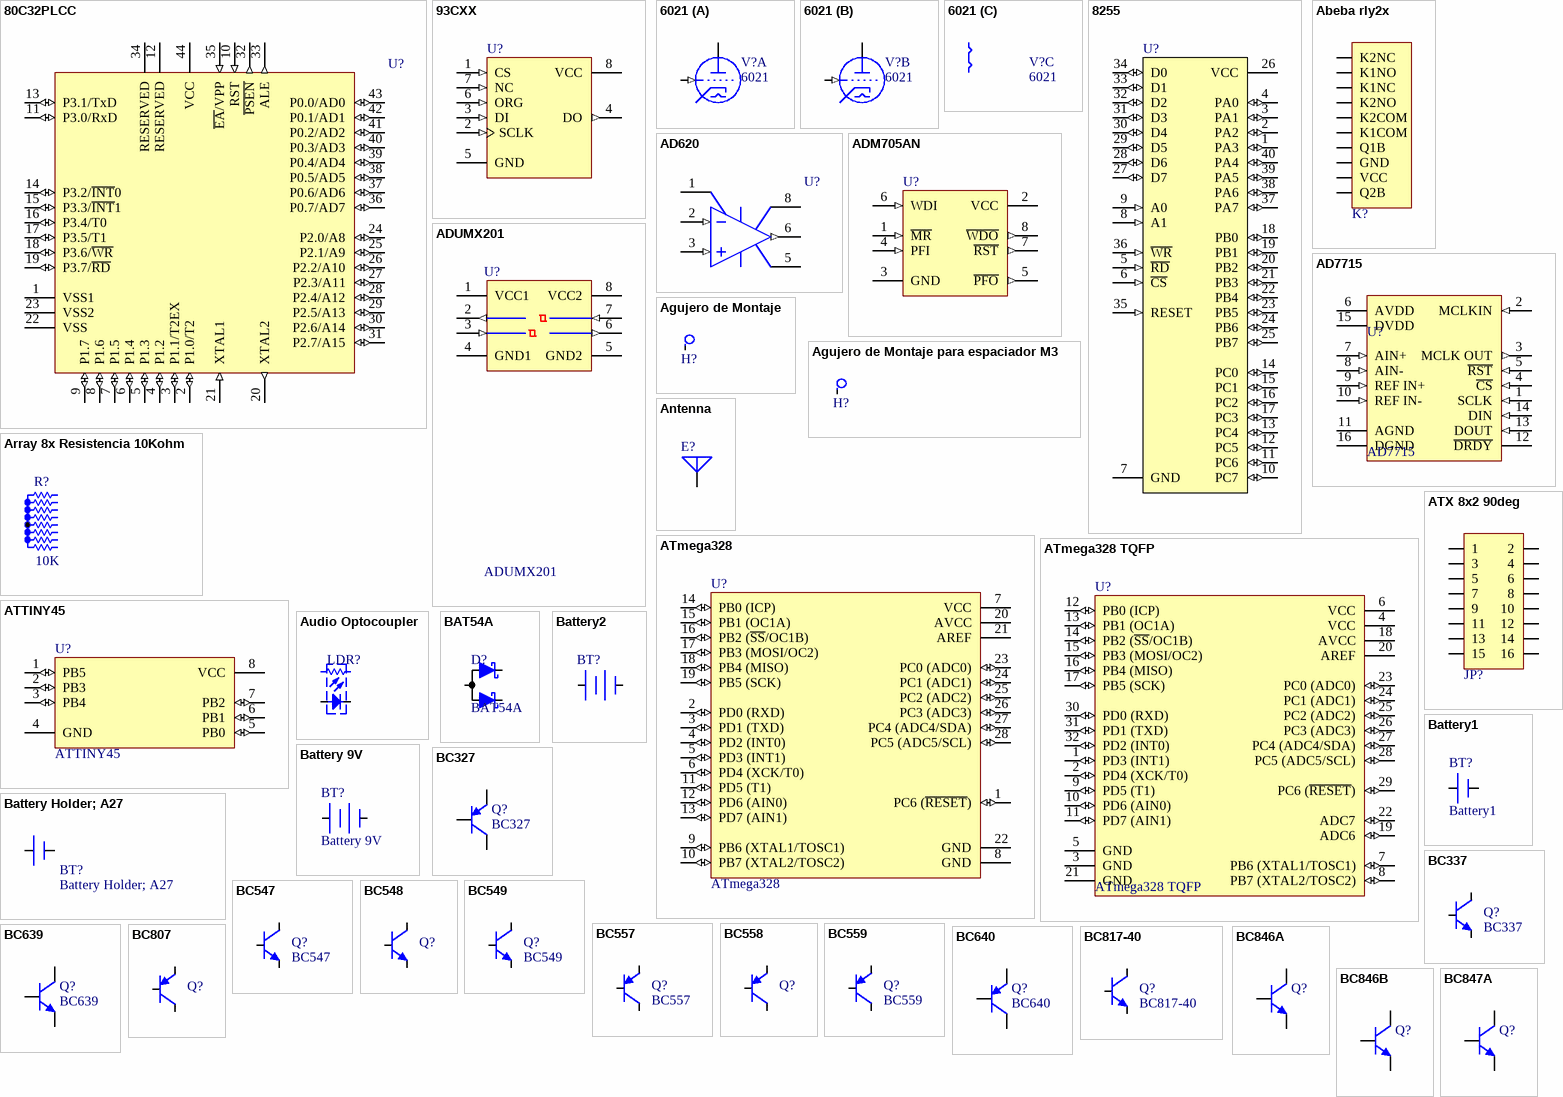
[diagram p4: symbols 80C32PLCC to BC847A]

## 80C32PLCC
designator U?
80C51 8-Bit Microcontroller Family: 128 B RAM, ROMless
footprint PLCC44 (ZOCALO PLCC 44)
pins: 1 VSS1, 2 P1.0/T2 (io), 3 P1.1/T2EX (io), 4 P1.2 (io), 5 P1.3 (io), 6 P1.4 (io), 7 P1.5 (io), 8 P1.6 (io), 9 P1.7 (io), 10 RST (in), 11 P3.0/RxD (io), 12 RESERVED, 13 P3.1/TxD (io), 14 P3.2/~{INT}0 (io), 15 P3.3/~{INT}1 (io), 16 P3.4/T0 (io), 17 P3.5/T1 (io), 18 P3.6/~{WR} (io), 19 P3.7/~{RD} (io), 20 XTAL2 (out), 21 XTAL1 (in), 22 VSS (power), 23 VSS2, 24 P2.0/A8 (io), 25 P2.1/A9 (io), 26 P2.2/A10 (io), 27 P2.3/A11 (io), 28 P2.4/A12 (io), 29 P2.5/A13 (io), 30 P2.6/A14 (io), 31 P2.7/A15 (io), 32 ~{PSEN} (out), 33 ALE (out), 34 RESERVED, 35 ~{EA}/VPP (in), 36 P0.7/AD7 (io), 37 P0.6/AD6 (io), 38 P0.5/AD5 (io), 39 P0.4/AD4 (io), 40 P0.3/AD3 (io), 41 P0.2/AD2 (io), 42 P0.1/AD1 (io), 43 P0.0/AD0 (io), 44 VCC (power)

## 93CXX
designator U?
Serial EEPROM; Price: ?
footprint DIP8Z (ZOCALO DIP 8)
pins: 1 CS (in), 2 SCLK (in), 3 DI (in), 4 DO (out), 5 GND (power), 6 ORG (in), 7 NC (in), 8 VCC (power)

## 6021
designator V?
6021 Tube; Revision: July-2002: Re-released for DXP Platform.
footprint tube_socket_4
simulation model V12AX7 (subckt)
part A pins: 5 CATHODE, 7 GRID (in), 8 PLATE
part B pins: 1 PLATE, 2 GRID (in), 4 CATHODE
part C pins: 3 HEATER, 6 HEATER

## 8255
designator U?
Programmable Peripheral Interface; Price: ?
footprint dip40 (DIP40 IC)
pins: 1 PA3 (io), 2 PA2 (io), 3 PA1 (io), 4 PA0 (io), 5 ~{RD} (in), 6 ~{CS} (in), 7 GND (power), 8 A1 (in), 9 A0 (in), 10 PC7 (io), 11 PC6 (io), 12 PC5 (io), 13 PC4 (io), 14 PC0 (io), 15 PC1 (io), 16 PC2 (io), 17 PC3 (io), 18 PB0 (io), 19 PB1 (io), 20 PB2 (io), 21 PB3 (io), 22 PB4 (io), 23 PB5 (io), 24 PB6 (io), 25 PB7 (io), 26 VCC (power), 27 D7 (io), 28 D6 (io), 29 D5 (io), 30 D4 (io), 31 D3 (io), 32 D2 (io), 33 D1 (io), 34 D0 (io), 35 RESET (in), 36 ~{WR} (in), 37 PA7 (io), 38 PA6 (io), 39 PA5 (io), 40 PA4 (io)

## Abeba rly2x
designator K?  (value not drawn)
Price: ?
footprint HDR10x1
footprint hdr10x1_.2
footprint ABEBA_rly2x
pins: 1 K2NC, 2 K1NO, 3 K1NC, 4 K2NO, 5 K2COM, 6 K1COM, 7 Q1B, 8 GND, 9 VCC, 10 Q2B

## AD620
designator U?
Low-Cost, Low-Power Instrumentation Amplifier; Package Information: Latest Revision: revA; Published: 8-Jun-2000; Revision: 17-Jul-2002: Re-released for DXP Platform.; Datasheet: Designer's Reference Manual CD (REV.D 1998); Package Reference: N-8; Publisher: Altium Limited
footprint DIP8Z (ZOCALO DIP 8)
simulation model AD620 (SUBCKT)
pins: 1 RG, 2 -IN (in), 3 +IN (in), 4 V- (power), 5 REF (power), 6 OUT (out), 7 V+ (power), 8 RG

## AD7715
designator U?
Revision: 17-Jul-2002: Re-released for DXP Platform.
footprint DIP16Z (ZOCALO DIP16)
pins: 1 SCLK (in), 2 MCLKIN (in), 3 MCLK OUT (out), 4 ~{CS} (in), 5 ~{RST} (in), 6 AVDD (power), 7 AIN+ (in), 8 AIN- (in), 9 REF IN+ (in), 10 REF IN- (in), 11 AGND (power), 12 ~{DRDY}, 13 DOUT (in), 14 DIN (in), 15 DVDD (power), 16 DGND (power)

## ADM705AN
designator U?
Low-Cost uP Supervisory Circuit; Revision: 17-Jul-2002: Re-released for DXP Platform.
footprint DIP8Z (ZOCALO DIP 8)
pins: 1 ~{MR} (in), 2 VCC (power), 3 GND (power), 4 PFI (in), 5 ~{PFO} (out), 6 WDI (in), 7 ~{RST} (out), 8 ~{WDO} (out)

## ADUMX201
designator U?
Price: ?
footprint so8 (SO8 IC)
footprint DIP16Z (ZOCALO DIP16)
pins: 1 VCC1 (power), 2 VOA (out), 3 VIB (in), 4 GND1 (power), 5 GND2 (power), 6 VOB (out), 7 VIB (in), 8 VCC2 (power)

## Agujero de Montaje
designator H?  (value not drawn)  (no BOM)
footprint agujero (AGUJERO DE MONTAJE)
pins: 1

## Agujero de Montaje para espaciador M3
designator H?  (value not drawn)  (no BOM)
footprint agujero para espaciador M3 (Agujero para espaciador M3)
pins: 1

## Antenna
designator E?
Generic Antenna; Revision: July-2002: Re-released for DXP Platform.
footprint pad1mm75mils
pins: 1 A

## Array 8x Resistencia 10Kohm
designator R?  Resistencia: 10K  (hidden comment: Array 8x Resistencia 10Kohm)
simulation model RESISTOR (Resistor)
footprint R_ARRY_8X
pins: 1, 2, 3, 4, 5, 6, 7, 8, 9

## ATmega328
designator U?
AVR Microcontroller DIP
footprint DIP28Z2
pins: 1 PC6 (~{RESET}) (io), 2 PD0 (RXD) (io), 3 PD1 (TXD) (io), 4 PD2 (INT0) (io), 5 PD3 (INT1) (io), 6 PD4 (XCK/T0) (io), 7 VCC (power), 8 GND (power), 9 PB6 (XTAL1/TOSC1) (io), 10 PB7 (XTAL2/TOSC2) (io), 11 PD5 (T1) (io), 12 PD6 (AIN0) (io), 13 PD7 (AIN1) (io), 14 PB0 (ICP) (io), 15 PB1 (OC1A) (io), 16 PB2 (~{SS}/OC1B) (io), 17 PB3 (MOSI/OC2) (io), 18 PB4 (MISO) (io), 19 PB5 (SCK) (io), 20 AVCC (power), 21 AREF, 22 GND (power), 23 PC0 (ADC0) (io), 24 PC1 (ADC1) (io), 25 PC2 (ADC2) (io), 26 PC3 (ADC3) (io), 27 PC4 (ADC4/SDA) (io), 28 PC5 (ADC5/SCL) (io)

## ATmega328 TQFP
designator U?
AVR Microcontroller TQFP
footprint TQFP32 (32-Pin Thin Quad Flat Pack 0.8 mm Pitch, IPC Low Density)
pins: 1 PD3 (INT1) (io), 2 PD4 (XCK/T0) (io), 3 GND (power), 4 VCC (power), 5 GND (power), 6 VCC (power), 7 PB6 (XTAL1/TOSC1) (io), 8 PB7 (XTAL2/TOSC2) (io), 9 PD5 (T1) (io), 10 PD6 (AIN0) (io), 11 PD7 (AIN1) (io), 12 PB0 (ICP) (io), 13 PB1 (OC1A) (io), 14 PB2 (~{SS}/OC1B) (io), 15 PB3 (MOSI/OC2) (io), 16 PB4 (MISO) (io), 17 PB5 (SCK) (io), 18 AVCC (power), 19 ADC6 (io), 20 AREF, 21 GND (power), 22 ADC7 (io), 23 PC0 (ADC0) (io), 24 PC1 (ADC1) (io), 25 PC2 (ADC2) (io), 26 PC3 (ADC3) (io), 27 PC4 (ADC4/SDA) (io), 28 PC5 (ADC5/SCL) (io), 29 PC6 (~{RESET}) (io), 30 PD0 (RXD) (io), 31 PD1 (TXD) (io), 32 PD2 (INT0) (io)

## ATTINY45
designator U?
footprint DIP8Z (ZOCALO DIP 8)
pins: 1 PB5 (io), 2 PB3 (io), 3 PB4 (io), 4 GND (power), 5 PB0 (io), 6 PB1 (io), 7 PB2 (io), 8 VCC (power)

## ATX 8x2 90deg
designator JP?  (value not drawn)
Price: ?
footprint HDR8x2_ATX_165_90
pins: 1, 2, 3, 4, 5, 6, 7, 8, 9, 10, 11, 12, 13, 14, 15, 16

## Audio Optocoupler
designator LDR?, comment NSL-32SR3  (value not drawn)
Audio Optocoupler; Codigo Digi-Key: NSL-32SR3-ND; Dolares Digi-Key: 3.24000; Dolares Digi-Key x10: 2.70000; Dolares Digi-Key x25: 2.26800
footprint Audio Optocoupler
pins: 1 A, 2 K, 3, 4

## BAT54A
designator D?
Revision: July-2002: Re-released for DXP Platform.
footprint sot23 (SOT23)
pins: 1 K, 2 K, 3 A

## Battery1
designator BT?
Multicell Battery; Revision: July-2002: Re-released for DXP Platform.
footprint hdr2x1 (HEADER 2x1)
footprint cr2032
footprint lr44
pins: 1 +, 2 -

## Battery2
designator BT?
Multicell Battery; Revision: July-2002: Re-released for DXP Platform.
footprint hdr2x1 (HEADER 2x1)
footprint cr2032
footprint bat4aaa
pins: 1 +, 2 -

## Battery 9V
designator BT?
Revision: July-2002: Re-released for DXP Platform.
footprint BAT_9V

## Battery Holder; A27
designator BT?
footprint ZOC_A27
pins: 1 +, 2 -

## BC327
designator Q?
800mA 45V PNP Bipolar Transistor; Price: 0.3267
footprint TO92 (DISPOSITIVO DE ENCAPSULADO TO-92); pin to pad 1>2 2>3 3>1
simulation model QBC327-40 (Model Description)
pins: 1 B, 2 E, 3 C

## BC337
designator Q?
NPN Bipolar Transistor; Price: ?
footprint to92 (DISPOSITIVO DE ENCAPSULADO TO-92)
footprint to92b
simulation model BC337 (Model Description)
pins: 1 C, 2 B, 3 E

## BC547
designator Q?
Price: ?
footprint to92 (DISPOSITIVO DE ENCAPSULADO TO-92)
pins: 1 C, 2 B, 3 E

## BC548
designator Q?
NPN Bipolar Transistor; Price: ?
footprint to92 (DISPOSITIVO DE ENCAPSULADO TO-92)
pins: 1 C, 2 B, 3 E

## BC549
designator Q?
Price: ?
footprint to92 (DISPOSITIVO DE ENCAPSULADO TO-92)
pins: 1 C, 2 B, 3 E

## BC557
designator Q?
footprint TO92 (DISPOSITIVO DE ENCAPSULADO TO-92)
pins: 1 C, 2 B, 3 E

## BC558
designator Q?
100mA 30V PNP Bipolar Transistor; Price: 0.3267
footprint TO92 (DISPOSITIVO DE ENCAPSULADO TO-92); pin to pad 1>2 2>3 3>1
pins: 1 B, 2 E, 3 C

## BC559
designator Q?
footprint TO92 (DISPOSITIVO DE ENCAPSULADO TO-92)
pins: 1 C, 2 B, 3 E

## BC639
designator Q?
NPN Bipolar Transistor; Price: ?
footprint to92 (DISPOSITIVO DE ENCAPSULADO TO-92); pin to pad 1>2 2>3 3>1
footprint to92b; pin to pad 1>2 2>3 3>1
footprint to92 (DISPOSITIVO DE ENCAPSULADO TO-92); pin to pad 1>2 2>3 3>1
pins: 1 C, 2 B, 3 E

## BC640
designator Q?
Price: 0.3267
footprint to92 (DISPOSITIVO DE ENCAPSULADO TO-92); pin to pad 1>3 2>1 3>2
pins: 1 B, 2 E, 3 C

## BC807
designator Q?
500mA 45V PNP Bipolar Transistor; Price: 0.3267
footprint SOT23
simulation model BC807 (PNP)
pins: 1 B, 2 E, 3 C

## BC817-40
designator Q?
Dolares Elemon: 0.03755; Codigo Elemon: TR1723021
footprint SOT23
simulation model BC817 (NPN)
pins: 1 B, 2 E, 3 C

## BC846A
designator Q?
100mA 65V NPN Bipolar Transistor; Price: 0.38
simulation model BC846A (NPN)
footprint SOT23; pin to pad 1>3 2>1 3>2
pins: 1 C, 2 B, 3 E

## BC846B
designator Q?
100mA 65V NPN Bipolar Transistor; Price: 0.38
simulation model BC846B (NPN)
footprint SOT23; pin to pad 1>3 2>1 3>2
pins: 1 C, 2 B, 3 E

## BC847A
designator Q?
100mA 65V NPN Bipolar Transistor; Price: 0.38
simulation model BC847A (NPN)
footprint SOT23; pin to pad 1>3 2>1 3>2
pins: 1 C, 2 B, 3 E

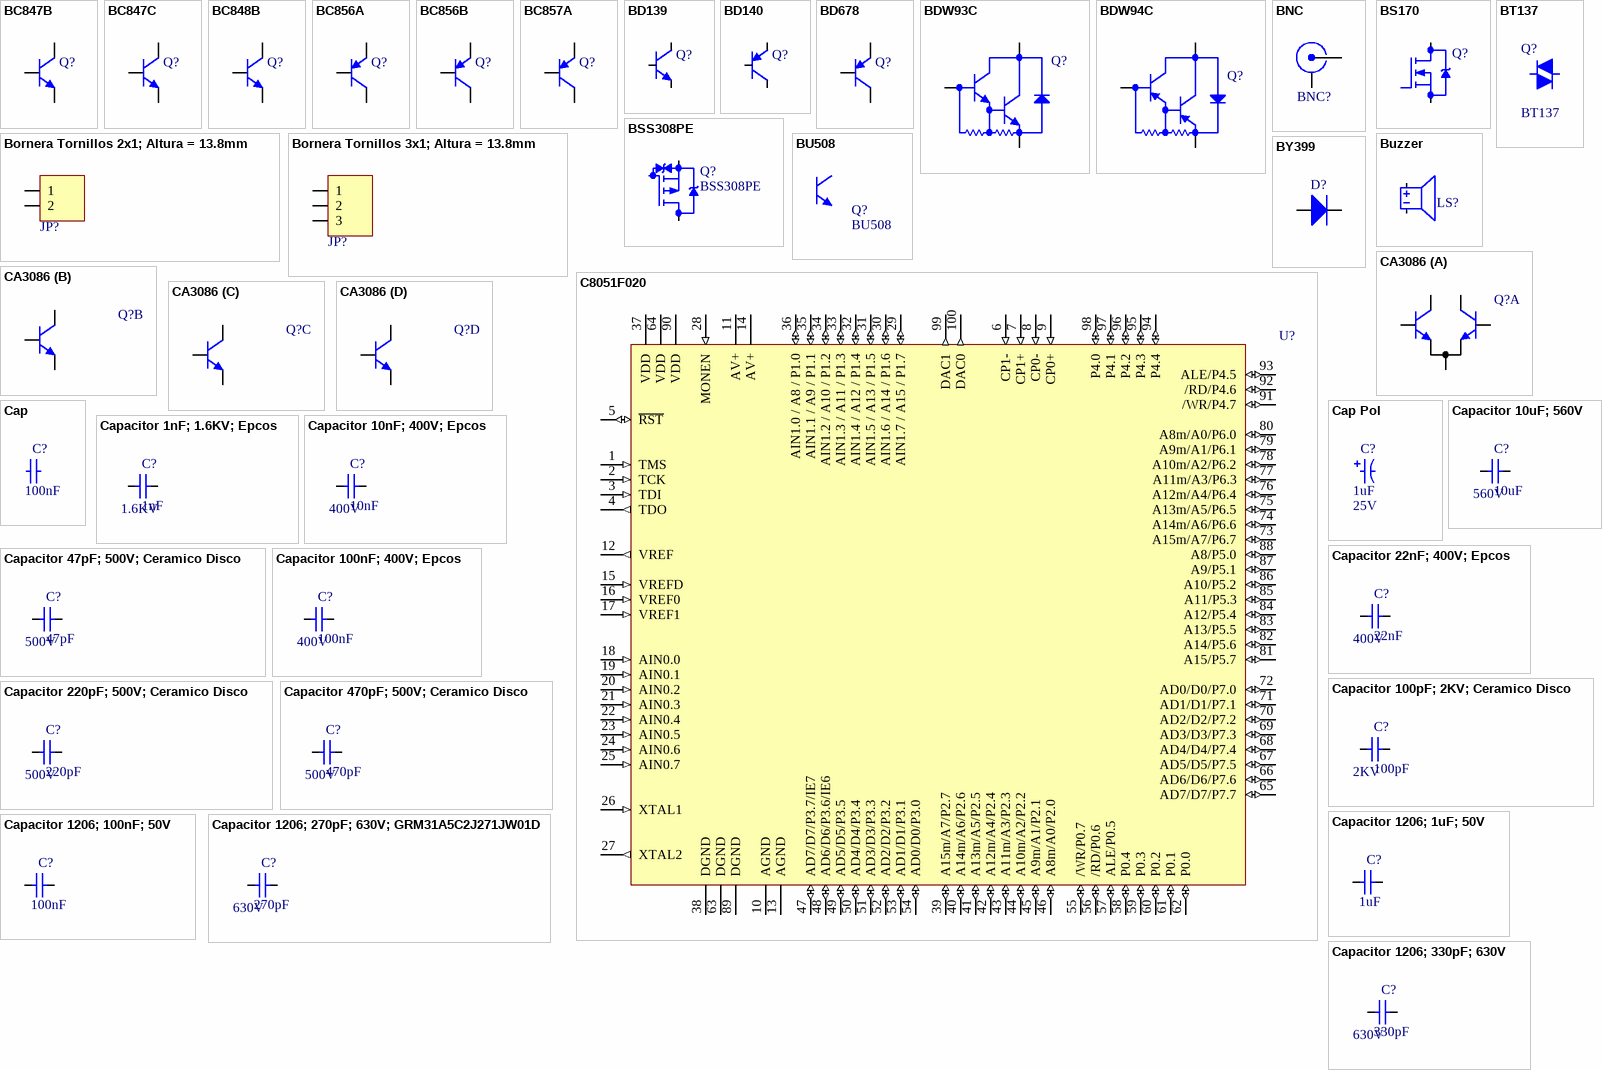
[diagram p5: symbols BC847B to Capacitor 1206; 330pF; 630V]

## BC847B
designator Q?
100mA 65V NPN Bipolar Transistor; Price: 0.38
simulation model BC847B (NPN)
footprint SOT23; pin to pad 1>3 2>1 3>2
pins: 1 C, 2 B, 3 E

## BC847C
designator Q?
100mA 65V NPN Bipolar Transistor; Price: 0.38
simulation model BC847C (NPN)
footprint SOT23; pin to pad 1>3 2>1 3>2
pins: 1 C, 2 B, 3 E

## BC848B
designator Q?
100mA 30V NPN Bipolar Transistor; Price: 0.38
simulation model BC848B (NPN)
footprint SOT23; pin to pad 1>3 2>1 3>2
pins: 1 C, 2 B, 3 E

## BC856A
designator Q?
100mA 65V PNP Bipolar Transistor; Price: 0.3267
simulation model BC856A (PNP)
footprint SOT23; pin to pad 1>3 2>1 3>2
pins: 1 C, 2 B, 3 E

## BC856B
designator Q?
100mA 65V PNP Bipolar Transistor; Price: 0.3267
simulation model BC856B (PNP)
footprint SOT23; pin to pad 1>3 2>1 3>2
pins: 1 C, 2 B, 3 E

## BC857A
designator Q?
100mA 45V PNP Bipolar Transistor; Price: 0.3267
simulation model BC857A (PNP)
footprint SOT23; pin to pad 1>3 2>1 3>2
pins: 1 C, 2 B, 3 E

## BD139
designator Q?
NPN Bipolar Transistor; Price: ?
footprint to126; pin to pad 1>2 2>1
footprint to92b
simulation model BC337 (Model Description)
pins: 1 C, 2 B, 3 E

## BD140
designator Q?
PNP Bipolar Transistor; Price: 0.3267
footprint TO126; pin to pad 2>3 3>2
pins: 1 B, 2 E, 3 C

## BD678
designator Q?
Price: 0.3267
footprint TO126; pin to pad 2>3 3>2
pins: 1 B, 2 E, 3 C

## BDW93C
designator Q?
NPN Darlington Bipolar Transistor; Price: ?
simulation model TIP112 (SUBCKT)
simulation model bdw93 (SUBCKT)
footprint TO220 (DISPOSITIVO DE ENCAPSULADO TO-220); pin to pad 1>2 2>1
pins: 1 C, 2 B, 3 E

## BDW94C
designator Q?
PNP Darlington Bipolar Transistor; Price: ?
footprint TO220 (DISPOSITIVO DE ENCAPSULADO TO-220); pin to pad 1>2 2>1
pins: 1 C, 2 B, 3 E

## BNC
designator BNC?
Conector BNC; Price: ?
footprint BNC
footprint BNC2
pins: 1 X, 2 Y

## Bornera Tornillos 2x1; Altura = 13.8mm
designator JP?, comment XY128V-A2P  (value not drawn)
Bornera Tornillos 2x1; Altura = 13.8mm; Codigo Elemon: MC5811820; Dolares Elemon: 0.27574
footprint bornera2
pins: 1, 2

## Bornera Tornillos 3x1; Altura = 13.8mm
designator JP?, comment XY128V-A3P  (value not drawn)
Bornera Tornillos 3x1; Altura = 13.8mm; Codigo Elemon: MC5811825; Dolares Elemon: 0.41363
footprint bornera3
pins: 1, 2, 3

## BS170
designator Q?
N-Channel MOSFET 60V  0.5A 1.2 ohm; Price: ?
simulation model BS170 (SUBCKT)
simulation model BS170V2 (SUBCKT)
pins: 1 G, 2 D, 3 S

## BSS308PE
designator Q?
Codigo Elemon: TR2003098; Dolares Elemon: 1.52982
footprint SOT23
pins: 1 G, 2 S, 3 D

## BT137
designator Q?
8A 500V/600V/800V Triac; Revision: July-2002: Re-released for DXP Platform.
footprint TO220 (DISPOSITIVO DE ENCAPSULADO TO-220)
footprint TO220_90
pins: 1 M1, 2 M2, 3 G

## BU508
designator Q?
footprint TO247; pin to pad 1>2 2>1
pins: 1 C, 2 B, 3 E

## Buzzer
designator LS?  (value not drawn)
Price: ?
footprint BUZZER16mm
footprint ENC_SON_BUZ_12MM (BUZZER)
pins: 1, 2
1 alternate drawing of the same symbol

## BY399
designator D?
3A 800V Fast Recovery Rectifier; Price: ?
footprint DIODE300 (DIODO THROUGH-HOLE)
footprint dsmd2mm (DIODO SMD)
footprint diode300 (DIODO THROUGH-HOLE)
footprint diode300_90
footprint DIODE600
footprint diode400
footprint D64
pins: 1, 2

## C8051F020
designator U?
Silabs Microcontroller
footprint FQFP100-0.5mm
pins: 1 TMS (in), 2 TCK (in), 3 TDI (in), 4 TDO (out), 5 ~{RST} (io), 6 CP1- (in), 7 CP1+ (in), 8 CP0- (in), 9 CP0+ (in), 10 AGND (power), 11 AV+ (power), 12 VREF (out), 13 AGND (power), 14 AV+ (power), 15 VREFD (in), 16 VREF0 (in), 17 VREF1 (in), 18 AIN0.0 (in), 19 AIN0.1 (in), 20 AIN0.2 (in), 21 AIN0.3 (in), 22 AIN0.4 (in), 23 AIN0.5 (in), 24 AIN0.6 (in), 25 AIN0.7 (in), 26 XTAL1 (in), 27 XTAL2 (out), 28 MONEN (in), 29 AIN1.7 / A15 / P1.7 (io), 30 AIN1.6 / A14 / P1.6 (io), 31 AIN1.5 / A13 / P1.5 (io), 32 AIN1.4 / A12 / P1.4 (io), 33 AIN1.3 / A11 / P1.3 (io), 34 AIN1.2 / A10 / P1.2 (io), 35 AIN1.1 / A9 / P1.1 (io), 36 AIN1.0 / A8 / P1.0 (io), 37 VDD (power), 38 DGND (power), 39 A15m/A7/P2.7 (io), 40 A14m/A6/P2.6 (io), 41 A13m/A5/P2.5 (io), 42 A12m/A4/P2.4 (io), 43 A11m/A3/P2.3 (io), 44 A10m/A2/P2.2 (io), 45 A9m/A1/P2.1 (io), 46 A8m/A0/P2.0 (io), 47 AD7/D7/P3.7/IE7 (io), 48 AD6/D6/P3.6/IE6 (io), 49 AD5/D5/P3.5 (io), 50 AD4/D4/P3.4 (io), 51 AD3/D3/P3.3 (io), 52 AD2/D2/P3.2 (io), 53 AD1/D1/P3.1 (io), 54 AD0/D0/P3.0 (io), 55 /WR/P0.7 (io), 56 /RD/P0.6 (io), 57 ALE/P0.5 (io), 58 P0.4 (io), 59 P0.3 (io), 60 P0.2 (io), 61 P0.1 (io), 62 P0.0 (io), 63 DGND (power), 64 VDD (power), 65 AD7/D7/P7.7 (io), 66 AD6/D6/P7.6 (io), 67 AD5/D5/P7.5 (io), 68 AD4/D4/P7.4 (io), 69 AD3/D3/P7.3 (io), 70 AD2/D2/P7.2 (io), 71 AD1/D1/P7.1 (io), 72 AD0/D0/P7.0 (io), 73 A15m/A7/P6.7 (io), 74 A14m/A6/P6.6 (io), 75 A13m/A5/P6.5 (io), 76 A12m/A4/P6.4 (io), 77 A11m/A3/P6.3 (io), 78 A10m/A2/P6.2 (io), 79 A9m/A1/P6.1 (io), 80 A8m/A0/P6.0 (io), 81 A15/P5.7 (io), 82 A14/P5.6 (io), 83 A13/P5.5 (io), 84 A12/P5.4 (io), 85 A11/P5.3 (io), 86 A10/P5.2 (io), 87 A9/P5.1 (io), 88 A8/P5.0 (io), 89 DGND (power), 90 VDD (power), 91 /WR/P4.7 (io), 92 /RD/P4.6 (io), 93 ALE/P4.5 (io), 94 P4.4 (io), 95 P4.3 (io), 96 P4.2 (io), 97 P4.1 (io), 98 P4.0 (io), 99 DAC1 (out), 100 DAC0 (out)

## CA3086
designator Q?
NPN Bipolar Transistor Array; Price: 3.5835
footprint dip14z (ZOCALO DIP14)
footprint dip14 (DIP14 IC)
part A pins: 1 C, 2 B, 3 E, 4 B, 5 C
part B pins: 6 B, 7 E, 8 C
part C pins: 9 B, 10 E, 11 C
part D pins: 12 B, 13 E, 14 C

## Cap
designator C?  value 100nF  (hidden comment: Cap)
Capacitor; Voltage: 50V; Price: 0.25; Technology: Ceramic
footprint cap100th (CAPACITOR THROUGH-HOLE)
simulation model CAPACITOR (Capacitor)
footprint C_DISC_200
footprint c1206
footprint 0603P
footprint 0805
footprint cap200th2
footprint cap300th
footprint cap600th
footprint CAP1100TH 14mmx29mm
footprint CAP2000TH 18mmx47mm
footprint cap400th
footprint C_POLY_17X8X16_600
footprint CAP2000TH 18mmx32mm
pins: 1, 2

## Cap Pol
designator C?  value 1uF  Voltaje: 25V  (hidden comment: Cap Pol)
Capacitor Electrolítico; Price: ?
footprint C_EL_6-3X11
footprint cap5mm (CAPACITOR ELECTROLÍTICO)
footprint cap4mm
simulation model CAPACITOR (Capacitor)
footprint cap16mm
footprint cap25mm
footprint CAP13MM
footprint cap8mm
footprint C_EL_10X20
footprint CAP18mm
footprint cap22mm
footprint cap35mm
pins: 1, 2

## Capacitor 1nF; 1.6KV; Epcos
designator C?  Voltaje: 1.6KV  Capacidad: 1nF  (hidden comment: Capacitor 1nF; 1.6KV; Epcos)
Dolares Elemon: 0.25244; Codigo Elemon: CA8029100
simulation model CAPACITOR (Capacitor)
footprint CAP 5MM x 18MM - 600MILS (CAPACITOR THROUGH-HOLE)
pins: 1, 2

## Capacitor 10nF; 400V; Epcos
designator C?  Voltaje: 400V  Capacidad: 10nF  (hidden comment: Capacitor 10nF; 400V; Epcos)
Dolares Elemon: 0.22529; Codigo Elemon: CA3509420
simulation model CAPACITOR (Capacitor)
footprint CAP 5MM x 11MM - 400MILS (CAPACITOR THROUGH-HOLE)
pins: 1, 2

## Capacitor 10uF; 560V
designator C?  Voltaje: 560V  Capacidad: 10uF  (hidden comment: Capacitor 10uF; 560V)
Dolares Mouser: 4.31; Codigo Mouser: 80-R46KW510050M1K; Dolares Mouser x10: 3.74; Dolares Mouser x50: 3.26
simulation model CAPACITOR (Capacitor)
footprint CAP 30MM x 41MM - 37.5MM
pins: 1, 2

## Capacitor 22nF; 400V; Epcos
designator C?  Voltaje: 400V  Capacidad: 22nF  (hidden comment: Capacitor 22nF; 400V; Epcos)
Dolares Elemon: 0.10141; Codigo Elemon: CA3509422
simulation model CAPACITOR (Capacitor)
footprint CAP 5MM x 11MM - 400MILS (CAPACITOR THROUGH-HOLE)
pins: 1, 2

## Capacitor 47pF; 500V; Ceramico Disco
designator C?  Voltaje: 500V  Capacidad: 47pF  (hidden comment: Capacitor 47pF; 500V; Ceramico Disco)
Dolares Elemon: 0.02319; Codigo Elemon: CA3159220
simulation model CAPACITOR (Capacitor)
footprint CAP100TH (CAPACITOR THROUGH-HOLE)
pins: 1, 2

## Capacitor 100nF; 400V; Epcos
designator C?  Voltaje: 400V  Capacidad: 100nF  (hidden comment: Capacitor 100nF; 400V; Epcos)
Dolares Elemon: 0.13308; Codigo Elemon: CA3509427
simulation model CAPACITOR (Capacitor)
footprint CAP 5MM x 11MM - 400MILS (CAPACITOR THROUGH-HOLE)
pins: 1, 2

## Capacitor 100pF; 2KV; Ceramico Disco
designator C?  Voltaje: 2KV  Capacidad: 100pF  (hidden comment: Capacitor 100pF; 2KV; Ceramico Disco)
Dolares Elemon: 0.06450; Codigo Elemon: CA3159275
simulation model CAPACITOR (Capacitor)
footprint CAP100TH (CAPACITOR THROUGH-HOLE)
pins: 1, 2

## Capacitor 220pF; 500V; Ceramico Disco
designator C?  Voltaje: 500V  Capacidad: 220pF  (hidden comment: Capacitor 220pF; 500V; Ceramico Disco)
Dolares Elemon: 0.03165; Codigo Elemon: CA3159320
simulation model CAPACITOR (Capacitor)
footprint CAP100TH (CAPACITOR THROUGH-HOLE)
pins: 1, 2

## Capacitor 470pF; 500V; Ceramico Disco
designator C?  Voltaje: 500V  Capacidad: 470pF  (hidden comment: Capacitor 470pF; 500V; Ceramico Disco)
Dolares Elemon: 0.02599; Codigo Elemon: CA3159380
simulation model CAPACITOR (Capacitor)
footprint CAP100TH (CAPACITOR THROUGH-HOLE)
pins: 1, 2

## Capacitor 1206; 1uF; 50V
designator C?, comment Capacidad: 1uF  (hidden comment: Capacitor 1206; 1uF; 50V_1)
Capacitor 1206; 1uF; 50V; Dolares Elemon: 0.08000; Codigo Elemon: CA3269945; Voltaje: 50V
simulation model CAPACITOR (Capacitor)
footprint C1206
pins: 1, 2

## Capacitor 1206; 100nF; 50V
designator C?  Capacidad: 100nF  (hidden comment: Capacitor 1206; 100nF; 50V)
Dolares Elemon: 0.03125; Codigo Elemon: CA3269770K; Voltaje: 50V
simulation model CAPACITOR (Capacitor)
footprint C1206
pins: 1, 2

## Capacitor 1206; 270pF; 630V; GRM31A5C2J271JW01D
designator C?, comment Voltaje: 630V  Capacidad: 270pF  (hidden comment: Capacitor 1206; 270pF; 630V)
Dolares Mouser: 0.37; Codigo Mouser: 81-GRM31A5C2J271JW1D; Dolares Mouser x10: 0.198; Dolares Mouser x100: 0.119; Dolares Mouser x1000: 0.108
simulation model CAPACITOR (Capacitor)
footprint C1206
pins: 1, 2

## Capacitor 1206; 330pF; 630V
designator C?  Voltaje: 630V  Capacidad: 330pF  (hidden comment: Capacitor 1206; 330pF; 630V)
Dolares Mouser: 0.25; Codigo Mouser: 810-C3216C0G2J331J; Dolares Mouser x10: 0.212; Dolares Mouser x100: 0.071; Dolares Mouser x1000: 0.062
simulation model CAPACITOR (Capacitor)
footprint C1206
pins: 1, 2

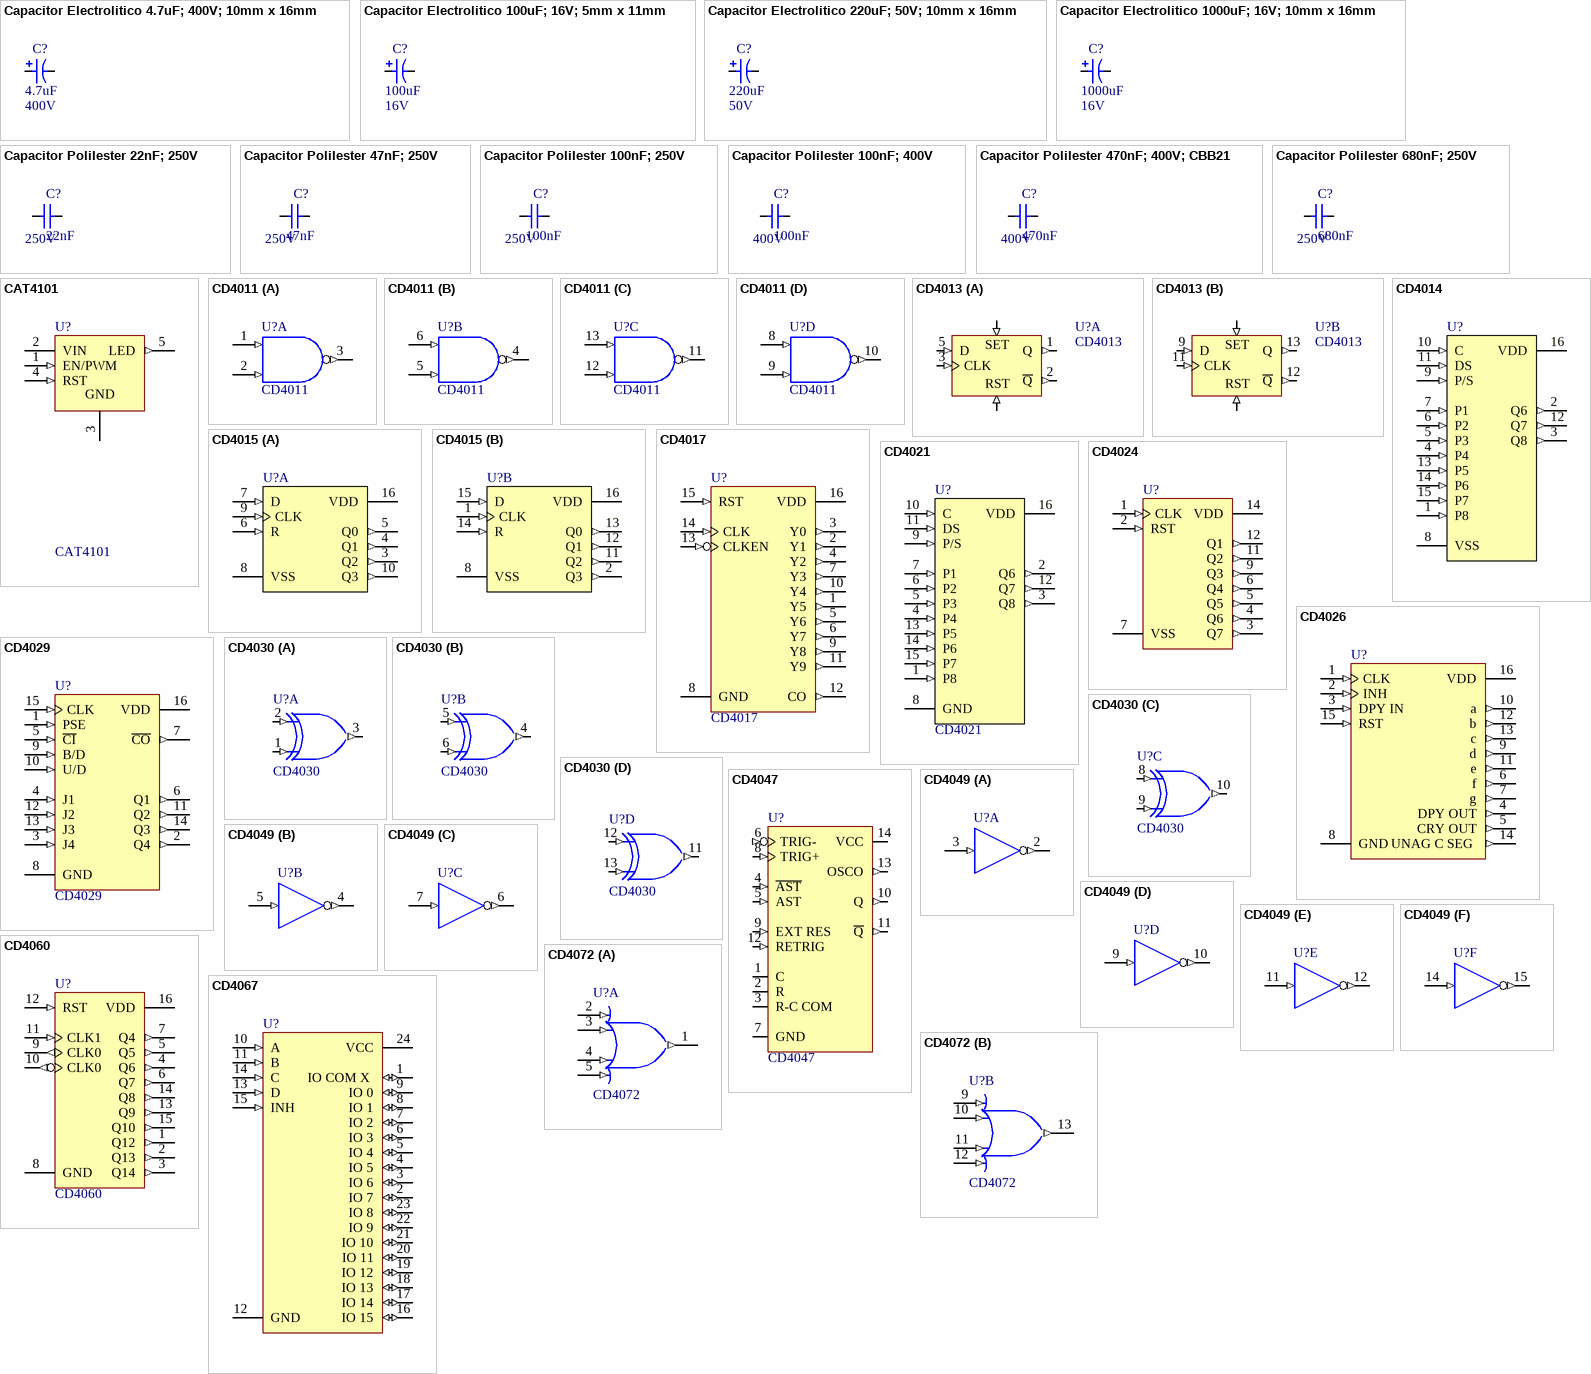
[diagram p6: symbols Capacitor Electrolitico 4.7uF; 400V; 10mm x 16mm to CD4072]

## Capacitor Electrolitico 4.7uF; 400V; 10mm x 16mm
designator C?  Capacidad: 4.7uF  Voltaje: 400V  (hidden comment: Capacitor Electrolitico 4.7uF; 400V; 10mm x 16mm)
Dolares Elemon: 0.28718; Codigo Elemon: CA3609977
simulation model CAPACITOR (Capacitor)
footprint cap10mm (CAPACITOR ELECTROLÍTICO)
pins: 1, 2

## Capacitor Electrolitico 100uF; 16V; 5mm x 11mm
designator C?  Capacidad: 100uF  Voltaje: 16V  (hidden comment: Capacitor Electrolitico 100uF; 16V; 5mm x 11mm)
Dolares Elemon: 0.02630; Codigo Elemon: CA3609132
simulation model CAPACITOR (Capacitor)
footprint cap5mm (CAPACITOR ELECTROLÍTICO)
pins: 1, 2

## Capacitor Electrolitico 220uF; 50V; 10mm x 16mm
designator C?  Capacidad: 220uF  Voltaje: 50V  (hidden comment: Capacitor Electrolitico 220uF; 50V; 10mm x 16mm)
Dolares Elemon: 0.16300; Codigo Elemon: CA3609481
simulation model CAPACITOR (Capacitor)
footprint cap10mm (CAPACITOR ELECTROLÍTICO)
pins: 1, 2

## Capacitor Electrolitico 1000uF; 16V; 10mm x 16mm
designator C?  Capacidad: 1000uF  Voltaje: 16V  (hidden comment: Capacitor Electrolitico 1000uF; 16V; 10mm x 16mm)
Dolares Elemon: 0.10810; Codigo Elemon: CA3609183
simulation model CAPACITOR (Capacitor)
footprint C_EL_10X16
pins: 1, 2

## Capacitor Polilester 22nF; 250V
designator C?  Voltaje: 250V  Capacidad: 22nF  (hidden comment: Capacitor Polilester 22nF; 250V)
Dolares Elemon: 0.12540; Codigo Elemon: CA3509225
simulation model CAPACITOR (Capacitor)
footprint CAP300TH 7.5MMX2.5MM
pins: 1, 2

## Capacitor Polilester 47nF; 250V
designator C?  Voltaje: 250V  Capacidad: 47nF  (hidden comment: Capacitor Polilester 47nF; 250V)
Dolares Elemon: 0.09437; Codigo Elemon: CA3509252
simulation model CAPACITOR (Capacitor)
footprint CAP300TH 7.5MMX2.5MM
pins: 1, 2

## Capacitor Polilester 100nF; 250V
designator C?  Voltaje: 250V  Capacidad: 100nF  (hidden comment: Capacitor Polilester 100nF; 250V)
Dolares Elemon: 0.08994; Codigo Elemon: CA3509275
simulation model CAPACITOR (Capacitor)
footprint CAP400TH 10MMX4MM
pins: 1, 2

## Capacitor Polilester 100nF; 400V
designator C?  Voltaje: 400V  Capacidad: 100nF  (hidden comment: Capacitor Polilester 100nF; 400V)
Dolares Elemon: 0.09984; Codigo Elemon: CA3509430
simulation model CAPACITOR (Capacitor)
footprint CAP400TH 10MMX4MM
pins: 1, 2

## Capacitor Polilester 470nF; 400V; CBB21
designator C?  Voltaje: 400V  Capacidad: 470nF  (hidden comment: Capacitor Polilester 470nF; 400V; CBB21)
Dolares Elemon: 0.21420; Codigo Elemon: CA8029620
simulation model CAPACITOR (Capacitor)
footprint CAP 6MM x 17MM - 600MILS (CAPACITOR THROUGH-HOLE)
pins: 1, 2

## Capacitor Polilester 680nF; 250V
designator C?  Voltaje: 250V  Capacidad: 680nF  (hidden comment: Capacitor Polilester 680nF; 250V)
Dolares Elemon: 0.32151; Codigo Elemon: CA3509329
simulation model CAPACITOR (Capacitor)
footprint cap600th_18x9
pins: 1, 2

## CAT4101
designator U?
Revision: 17-Jul-2002: Re-released for DXP Platform.
footprint TO263-5 (ENCAPSULADO TO263)
pins: 1 EN/PWM (in), 2 VIN (power), 3 GND (power), 4 RST (in), 5 LED (out)

## CD4011
designator U?
Quad 2-Input NAND Gate; Price: ?
footprint DIP14 (DIP14 IC)
pins on every part: 7 GND (power) hidden to GND, 14 VCC (power) hidden to VCC
part A pins: 1 A (in), 2 B (in), 3 ~{O} (out)
part B pins: 4 ~{O} (out), 5 B (in), 6 A (in)
part C pins: 11 ~{O} (out), 12 B (in), 13 A (in)
part D pins: 8 A (in), 9 B (in), 10 ~{O} (out)